# Altium schematic symbol library IC_logic.SchLib: 30 symbols
Pins are listed as number, name and electrical type; pins without a type are passive.

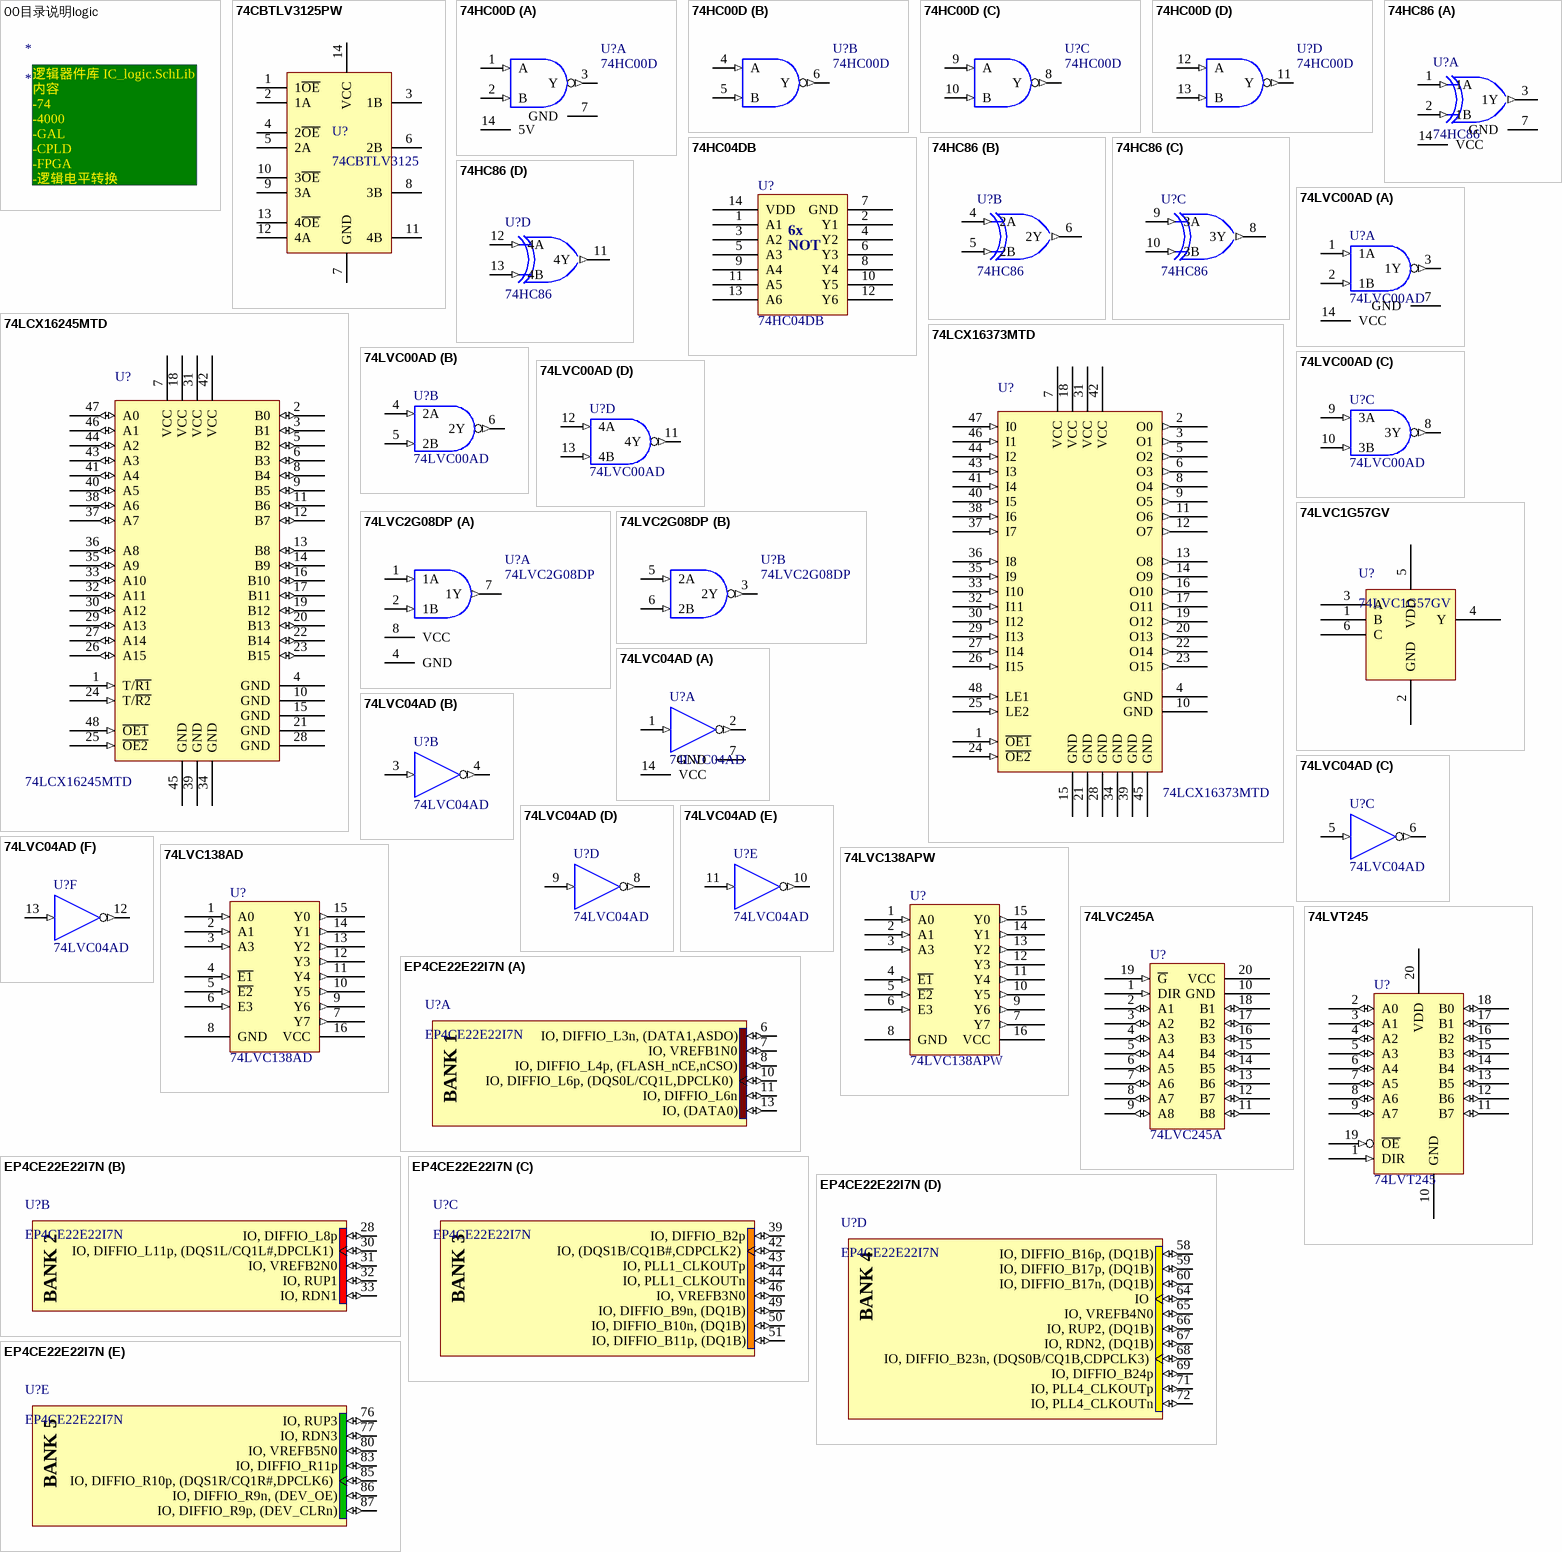
[diagram p0: symbols 00目录说明logic to EP4CE22E22I7N]

## 00目录说明logic
designator *
text: 逻辑器件库 IC_logic.SchLib / 内容 / -74 / -4000 / -GAL / -CPLD / -FPGA / -逻辑电平转换 /

## 74CBTLV3125PW
designator U?, comment 74CBTLV3125
4-bit bus switch; Manufacturer: NXP; Name: 四通道芯片; Ordering NO.: 74CBTLV3125PW
footprint TSSOP14/0.65_5.0*4.4 (TSSOP, 14-Leads, Body 5.1x4.5mm (max), Pitch 0.65mm, IPC Medium Density)
pins: 1 1~{OE}, 2 1A, 3 1B, 4 2~{OE}, 5 2A, 6 2B, 7 GND, 8 3B, 9 3A, 10 3~{OE}, 11 4B, 12 4A, 13 4~{OE}, 14 VCC

## 74HC00D
designator U?
4路2输入与非门; Manufacturer: NXP; Name: 与非门; Ordering NO.: 74HC00D
footprint SO14/1.27_8.65*3.9 (SOIC, 14-Leads, Body 8.65x3.9mm, Pitch 1.27mm, IPC Medium Density)
part A pins: 1 A (in), 2 B (in), 3 Y (out), 7 GND (power), 14 5V (power)
part B pins: 4 A (in), 5 B (in), 6 Y (out)
part C pins: 8 Y (out), 9 A (in), 10 B (in)
part D pins: 11 Y (out), 12 A (in), 13 B (in)

## 74HC04DB
designator U?
Hex inverter, 6 Channel, 5V(2V-6V); Manufacturer: NXP; Name: 反相器; Ordering NO.: 74HC04DB
footprint SSOP14/0.65_6.2*5.3 (Footprint not found)
pins: 1 A1, 2 Y1, 3 A2, 4 Y2, 5 A3, 6 Y3, 7 GND, 8 Y4, 9 A4, 10 Y5, 11 A5, 12 Y6, 13 A6, 14 VDD
text: 6x; NOT

## 74HC86
designator U?
Quad Exclusive-OR Gate; Manufacturer: NXP; Name: 异或门; Ordering NO.: 74HC86
simulation model 74HC86 (SIMCODE)
footprint SO14/1.27_8.65*3.9 (SOIC, 14-Leads, Body 8.65x3.9mm, Pitch 1.27mm, IPC Medium Density)
part A pins: 1 1A (in), 2 1B (in), 3 1Y (out), 7 GND (power), 14 VCC (power)
part B pins: 4 2A (in), 5 2B (in), 6 2Y (out)
part C pins: 8 3Y (out), 9 3A (in), 10 3B (in)
part D pins: 11 4Y (out), 12 4A (in), 13 4B (in)
1 alternate drawing of the same symbol

## 74LCX16245MTD
designator U?
Low Voltage 16-Bit Bidirectional Transceiver with 5V Tolerant Inputs and Outputs; Manufacturer: FAIRCHILD; Name: 缓冲器; Ordering NO.: 74LCX16245MTD
footprint TSSOP48/0.5_12.5*6.1 (Footprint not found)
pins: 1 T/~{R1} (in), 2 B0 (io), 3 B1 (io), 4 GND (power), 5 B2 (io), 6 B3 (io), 7 VCC (power), 8 B4 (io), 9 B5 (io), 10 GND (power), 11 B6 (io), 12 B7 (io), 13 B8 (io), 14 B9 (io), 15 GND (power), 16 B10 (io), 17 B11 (io), 18 VCC (power), 19 B12 (io), 20 B13 (io), 21 GND (power), 22 B14 (io), 23 B15 (io), 24 T/~{R2} (in), 25 ~{OE2} (in), 26 A15 (io), 27 A14 (io), 28 GND (power), 29 A13 (io), 30 A12 (io), 31 VCC (power), 32 A11 (io), 33 A10 (io), 34 GND (power), 35 A9 (io), 36 A8 (io), 37 A7 (io), 38 A6 (io), 39 GND (power), 40 A5 (io), 41 A4 (io), 42 VCC (power), 43 A3 (io), 44 A2 (io), 45 GND (power), 46 A1 (io), 47 A0 (io), 48 ~{OE1} (in)

## 74LCX16373MTD
designator U?
Low Voltage 16-Bit Transparent Latch with 5V Tolerant Inputs and Outputs; Manufacturer: NXP; Name: 缓冲器; Ordering NO.: 74LCX16373MTD
footprint TSSOP48/0.5_12.5*6.1 (TSSOP, 48-Leads, Body 12.5x6.1mm , Pitch 0.5mm,)
pins: 1 ~{OE1} (in), 2 O0 (out), 3 O1 (out), 4 GND (power), 5 O2 (out), 6 O3 (out), 7 VCC (power), 8 O4 (out), 9 O5 (out), 10 GND (power), 11 O6 (out), 12 O7 (out), 13 O8 (out), 14 O9 (out), 15 GND (power), 16 O10 (out), 17 O11 (out), 18 VCC (power), 19 O12 (out), 20 O13 (out), 21 GND (power), 22 O14 (out), 23 O15 (out), 24 ~{OE2} (in), 25 LE2 (in), 26 I15 (in), 27 I14 (in), 28 GND (power), 29 I13 (in), 30 I12 (in), 31 VCC (power), 32 I11 (in), 33 I10 (in), 34 GND (power), 35 I9 (in), 36 I8 (in), 37 I7 (in), 38 I6 (in), 39 GND (power), 40 I5 (in), 41 I4 (in), 42 VCC (power), 43 I3 (in), 44 I2 (in), 45 GND (power), 46 I1 (in), 47 I0 (in), 48 LE1 (in)

## 74LVC00AD
designator U?
Quad 2-Input Positive-NAND Gate; Manufacturer: NXP; Name: 与非门; Ordering NO.: 74LVC00AD
simulation model 74LVC00 (SIMCODE)
footprint SO14/1.27_8.65*3.9 (SOIC, 14-Leads, Body 8.65x3.9mm, Pitch 1.27mm, IPC Medium Density)
part A pins: 1 1A (in), 2 1B (in), 3 1Y (out), 7 GND (power), 14 VCC (power)
part B pins: 4 2A (in), 5 2B (in), 6 2Y (out)
part C pins: 8 3Y (out), 9 3A (in), 10 3B (in)
part D pins: 11 4Y (out), 12 4A (in), 13 4B (in)
1 alternate drawing of the same symbol

## 74LVC1G57GV
designator U?
单门SOT23-6封装; Manufacturer: NXP; 物料型号说明: 74单门SOT-23; Name: 74单门; Ordering NO.: 74LVC1G57GV; 物料替代型号: n/a; Price: 3
footprint SOT23-6 (SOT-23/SC-74A; 5 Leads; Body 3.1 x 3 mm, inc. leads (LxW max))
pins: 1 B, 2 GND, 3 A, 4 Y, 5 VDD, 6 C

## 74LVC2G08DP
designator U?
2路2输入与门; Manufacturer: PHILIPS; Name: 与门; Ordering NO.: 74LVC2G08DP
footprint TSSOP8/0.65_3*3-A (TSSOP, 8-Leads, Body 3x3mm , Pitch 0.65mm, IPC Medium Density)
part A pins: 1 1A (in), 2 1B (in), 4 GND (power), 7 1Y (out), 8 VCC (power)
part B pins: 3 2Y (out), 5 2A (in), 6 2B (in)

## 74LVC04AD
designator U?
Hex Inverter; Manufacturer: NXP; Name: 非门; Ordering NO.: 74LVC04AD
simulation model 74LVC04 (SIMCODE)
footprint SO14/1.27_8.65*3.9 (SOIC, 14-Leads, Body 8.65x3.9mm, Pitch 1.27mm, IPC Medium Density)
part A pins: 1 A (in), 2 Y (out), 7 GND (power), 14 VCC (power)
part B pins: 3 A (in), 4 Y (out)
part C pins: 5 A (in), 6 Y (out)
part D pins: 8 Y (out), 9 A (in)
part E pins: 10 Y (out), 11 A (in)
part F pins: 12 Y (out), 13 A (in)
1 alternate drawing of the same symbol

## 74LVC138AD
designator U?
3.3V CMOS 3-Line to 8-Line Decoder/Demultiplexer with 5V Tolerant I/O; Manufacturer: NXP; Name: 3-8译码器; Ordering NO.: 74LVC138AD
footprint SO16/1.27_9.9*3.9
pins: 1 A0 (in), 2 A1 (in), 3 A3 (in), 4 ~{E1} (in), 5 ~{E2} (in), 6 E3 (in), 7 Y7 (out), 8 GND (power), 9 Y6 (out), 10 Y5 (out), 11 Y4 (out), 12 Y3 (out), 13 Y2 (out), 14 Y1 (out), 15 Y0 (out), 16 VCC (power)

## 74LVC138APW
designator U?
3.3V CMOS 3-Line to 8-Line Decoder/Demultiplexer with 5V Tolerant I/O; Manufacturer: NXP; Name: 3-8译码器; Ordering NO.: 74LVC138APW
footprint TSSOP16/0.65_5.0*4.4 (TSSOP, 16-Leads, Body 5.0x4.4mm , Pitch 0.65mm, IPC Medium Density)
pins: 1 A0 (in), 2 A1 (in), 3 A3 (in), 4 ~{E1} (in), 5 ~{E2} (in), 6 E3 (in), 7 Y7 (out), 8 GND (power), 9 Y6 (out), 10 Y5 (out), 11 Y4 (out), 12 Y3 (out), 13 Y2 (out), 14 Y1 (out), 15 Y0 (out), 16 VCC (power)

## 74LVC245A
designator U?
Low Voltage CMOS Octal Bus Transceiver (not inverted) High Performance; Manufacturer: NXP; Name: 多功能门; Ordering NO.: 74LVC245A
footprint TSSOP20/0.65_6.5*4.4 (Thin Shrink Small Outline; 20 Leads; Body Width 4.4 mm; Pitch 0.65 mm)
footprint SO20/1.27_12.8*7.5 (Footprint not found)
pins: 1 DIR (in), 2 A1 (io), 3 A2 (io), 4 A3 (io), 5 A4 (io), 6 A5 (io), 7 A6 (io), 8 A7 (io), 9 A8 (io), 10 GND (power), 11 B8 (io), 12 B7 (io), 13 B6 (io), 14 B5 (io), 15 B4 (io), 16 B3 (io), 17 B2 (io), 18 B1 (io), 19 ~{G} (in), 20 VCC (power)

## 74LVT245
designator U?
74逻辑8总线缓冲门; Manufacturer: NXP; 物料替代型号: 74LCX245; Ordering NO.: 74LVT245/SSOP20; 物料型号说明: SSOP20; Price: 1.5; Name: 74逻辑8总线缓冲门
footprint SSOP20/0.65_7.2*5.3 (SSOP,Body Wide 5.3mm,25mil间距)
pins: 1 DIR (in), 2 A0 (io), 3 A1 (io), 4 A2 (io), 5 A3 (io), 6 A4 (io), 7 A5 (io), 8 A6 (io), 9 A7 (io), 10 GND (power), 11 B7 (io), 12 B6 (io), 13 B5 (io), 14 B4 (io), 15 B3 (io), 16 B2 (io), 17 B1 (io), 18 B0 (io), 19 ~{OE} (in), 20 VDD (power)

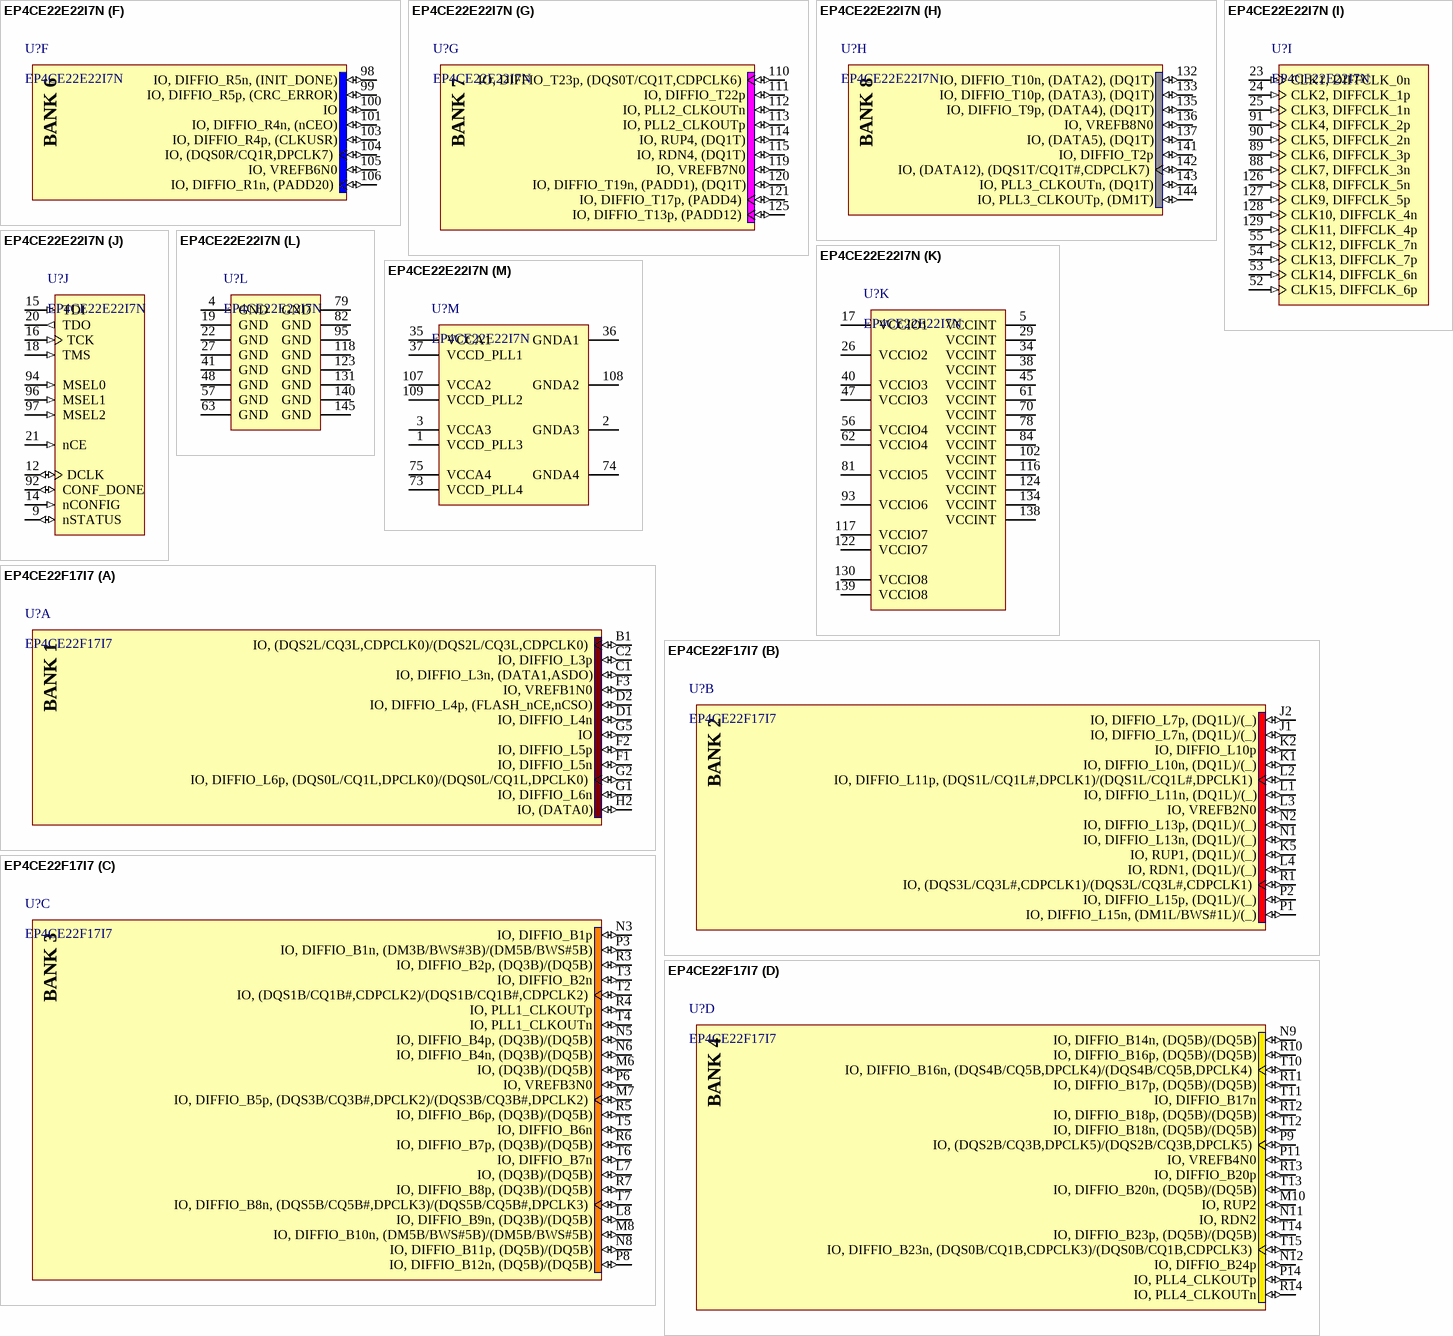
[diagram p1: symbols EP4CE22E22I7N to EP4CE22F17I7]

## EP4CE22E22I7N
designator U?
Cyclone IV Family FPGA, 1.2V Core, 79 I/O Pins, 4 PLLs, 144-Pin QFP, Speed Grade 7, Industrial Grade, Pb-Free; Manufacturer: Altera; Name: FPGA; Ordering NO.: EP4CE22E22I7N
footprint EQFP144/0.5_20*20-T (Shrink QFP, 144-Leads, Body 20x20mm, Pitch 0.5mm, Thermal Pad 6.85x6.85mm, IPC Medium Density)
part A pins: 6 IO, DIFFIO_L3n, (DATA1,ASDO) (io), 7 IO, VREFB1N0 (io), 8 IO, DIFFIO_L4p, (FLASH_nCE,nCSO) (io), 10 IO, DIFFIO_L6p, (DQS0L/CQ1L,DPCLK0) (io), 11 IO, DIFFIO_L6n (io), 13 IO, (DATA0) (io)
part B pins: 28 IO, DIFFIO_L8p (io), 30 IO, DIFFIO_L11p, (DQS1L/CQ1L#,DPCLK1) (io), 31 IO, VREFB2N0 (io), 32 IO, RUP1 (io), 33 IO, RDN1 (io)
part C pins: 39 IO, DIFFIO_B2p (io), 42 IO, (DQS1B/CQ1B#,CDPCLK2) (io), 43 IO, PLL1_CLKOUTp (io), 44 IO, PLL1_CLKOUTn (io), 46 IO, VREFB3N0 (io), 49 IO, DIFFIO_B9n, (DQ1B) (io), 50 IO, DIFFIO_B10n, (DQ1B) (io), 51 IO, DIFFIO_B11p, (DQ1B) (io)
part D pins: 58 IO, DIFFIO_B16p, (DQ1B) (io), 59 IO, DIFFIO_B17p, (DQ1B) (io), 60 IO, DIFFIO_B17n, (DQ1B) (io), 64 IO (io), 65 IO, VREFB4N0 (io), 66 IO, RUP2, (DQ1B) (io), 67 IO, RDN2, (DQ1B) (io), 68 IO, DIFFIO_B23n, (DQS0B/CQ1B,CDPCLK3) (io), 69 IO, DIFFIO_B24p (io), 71 IO, PLL4_CLKOUTp (io), 72 IO, PLL4_CLKOUTn (io)
part E pins: 76 IO, RUP3 (io), 77 IO, RDN3 (io), 80 IO, VREFB5N0 (io), 83 IO, DIFFIO_R11p (io), 85 IO, DIFFIO_R10p, (DQS1R/CQ1R#,DPCLK6) (io), 86 IO, DIFFIO_R9n, (DEV_OE) (io), 87 IO, DIFFIO_R9p, (DEV_CLRn) (io)
part F pins: 98 IO, DIFFIO_R5n, (INIT_DONE) (io), 99 IO, DIFFIO_R5p, (CRC_ERROR) (io), 100 IO (io), 101 IO, DIFFIO_R4n, (nCEO) (io), 103 IO, DIFFIO_R4p, (CLKUSR) (io), 104 IO, (DQS0R/CQ1R,DPCLK7) (io), 105 IO, VREFB6N0 (io), 106 IO, DIFFIO_R1n, (PADD20) (io)
part G pins: 110 IO, DIFFIO_T23p, (DQS0T/CQ1T,CDPCLK6) (io), 111 IO, DIFFIO_T22p (io), 112 IO, PLL2_CLKOUTn (io), 113 IO, PLL2_CLKOUTp (io), 114 IO, RUP4, (DQ1T) (io), 115 IO, RDN4, (DQ1T) (io), 119 IO, VREFB7N0 (io), 120 IO, DIFFIO_T19n, (PADD1), (DQ1T) (io), 121 IO, DIFFIO_T17p, (PADD4) (io), 125 IO, DIFFIO_T13p, (PADD12) (io)
part H pins: 132 IO, DIFFIO_T10n, (DATA2), (DQ1T) (io), 133 IO, DIFFIO_T10p, (DATA3), (DQ1T) (io), 135 IO, DIFFIO_T9p, (DATA4), (DQ1T) (io), 136 IO, VREFB8N0 (io), 137 IO, (DATA5), (DQ1T) (io), 141 IO, DIFFIO_T2p (io), 142 IO, (DATA12), (DQS1T/CQ1T#,CDPCLK7) (io), 143 IO, PLL3_CLKOUTn, (DQ1T) (io), 144 IO, PLL3_CLKOUTp, (DM1T) (io)
part I pins: 23 CLK1, DIFFCLK_0n (in), 24 CLK2, DIFFCLK_1p (in), 25 CLK3, DIFFCLK_1n (in), 52 CLK15, DIFFCLK_6p (in), 53 CLK14, DIFFCLK_6n (in), 54 CLK13, DIFFCLK_7p (in), 55 CLK12, DIFFCLK_7n (in), 88 CLK7, DIFFCLK_3n (in), 89 CLK6, DIFFCLK_3p (in), 90 CLK5, DIFFCLK_2n (in), 91 CLK4, DIFFCLK_2p (in), 126 CLK8, DIFFCLK_5n (in), 127 CLK9, DIFFCLK_5p (in), 128 CLK10, DIFFCLK_4n (in), 129 CLK11, DIFFCLK_4p (in)
part J pins: 9 nSTATUS (io), 12 DCLK (io), 14 nCONFIG (in), 15 TDI (in), 16 TCK (in), 18 TMS (in), 20 TDO (out), 21 nCE (in), 92 CONF_DONE (io), 94 MSEL0 (in), 96 MSEL1 (in), 97 MSEL2 (in)
part K pins: 5 VCCINT (power), 17 VCCIO1 (power), 26 VCCIO2 (power), 29 VCCINT (power), 34 VCCINT (power), 38 VCCINT (power), 40 VCCIO3 (power), 45 VCCINT (power), 47 VCCIO3 (power), 56 VCCIO4 (power), 61 VCCINT (power), 62 VCCIO4 (power), 70 VCCINT (power), 78 VCCINT (power), 81 VCCIO5 (power), 84 VCCINT (power), 93 VCCIO6 (power), 102 VCCINT (power), 116 VCCINT (power), 117 VCCIO7 (power), 122 VCCIO7 (power), 124 VCCINT (power), 130 VCCIO8 (power), 134 VCCINT (power), 138 VCCINT (power), 139 VCCIO8 (power)
part L pins: 4 GND (power), 19 GND (power), 22 GND (power), 27 GND (power), 41 GND (power), 48 GND (power), 57 GND (power), 63 GND (power), 79 GND (power), 82 GND (power), 95 GND (power), 118 GND (power), 123 GND (power), 131 GND (power), 140 GND (power), 145 GND (power)
part M pins: 1 VCCD_PLL3 (power), 2 GNDA3 (power), 3 VCCA3 (power), 35 VCCA1 (power), 36 GNDA1 (power), 37 VCCD_PLL1 (power), 73 VCCD_PLL4 (power), 74 GNDA4 (power), 75 VCCA4 (power), 107 VCCA2 (power), 108 GNDA2 (power), 109 VCCD_PLL2 (power)
part A text: BANK 1
part B text: BANK 2
part C text: BANK 3
part D text: BANK 4
part E text: BANK 5
part F text: BANK 6
part G text: BANK 7
part H text: BANK 8

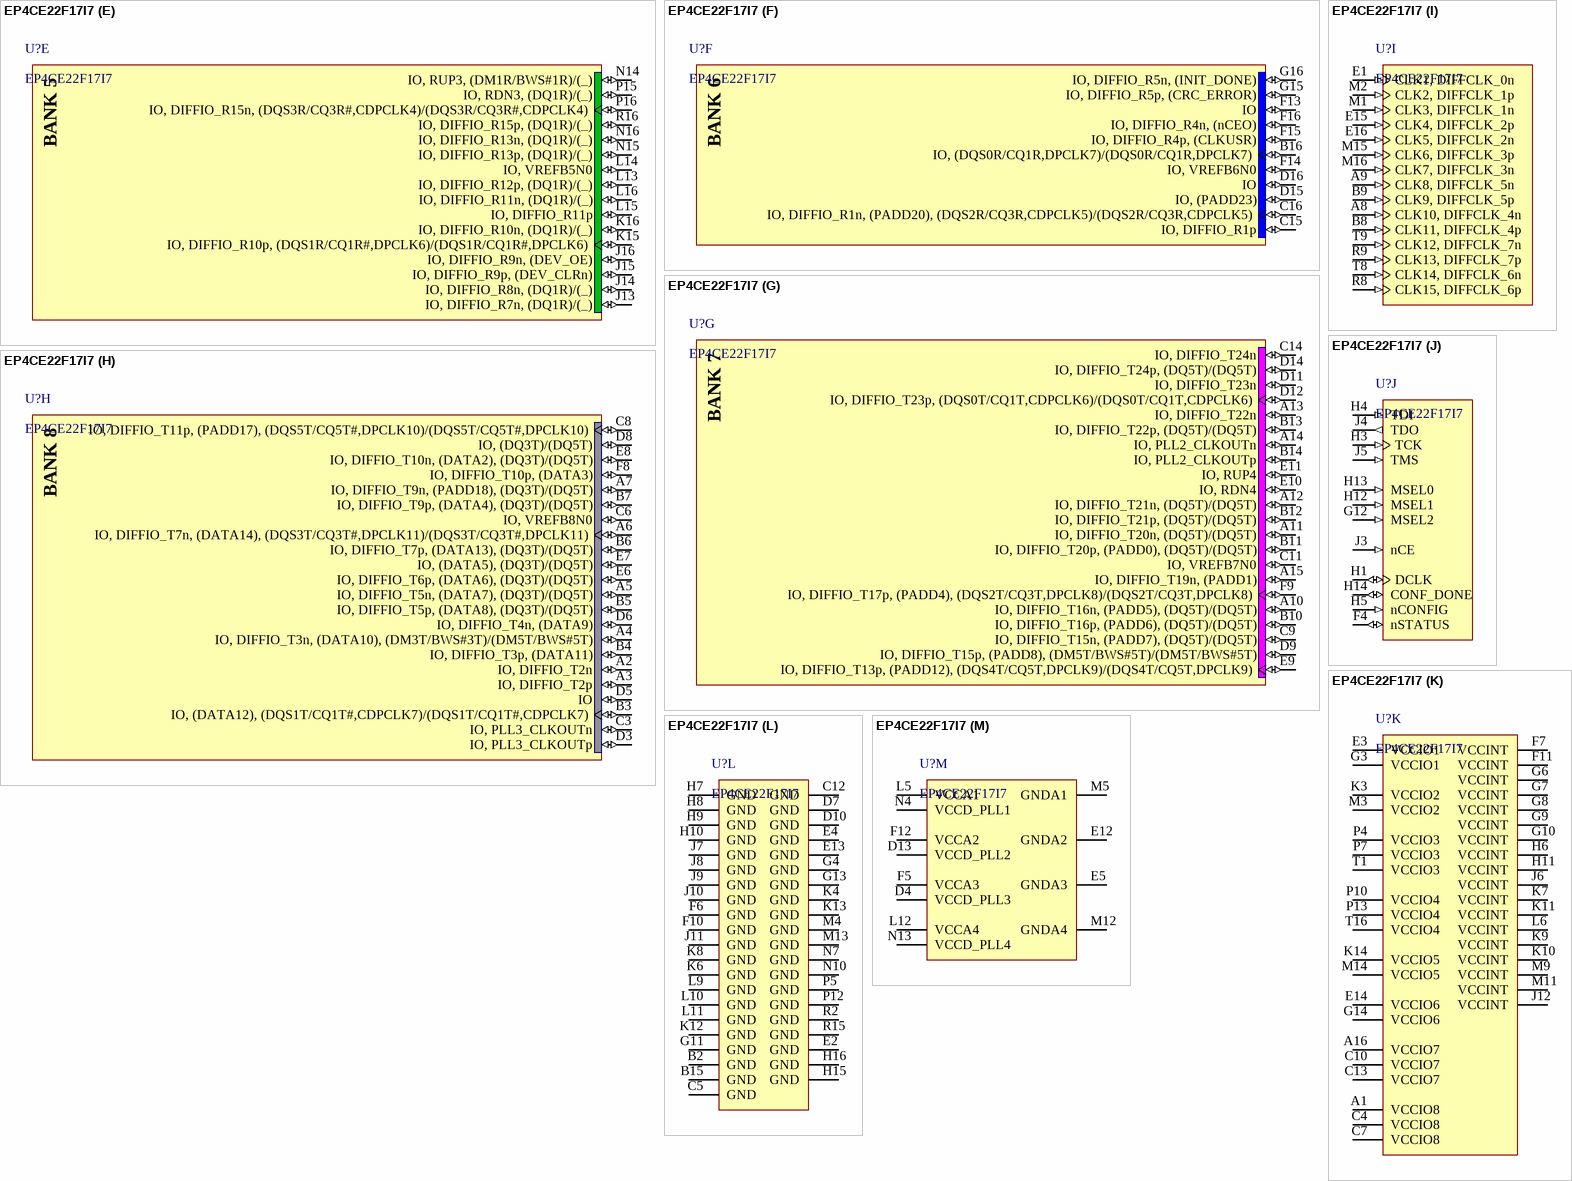
[diagram p2: symbol EP4CE22F17I7]

## EP4CE22F17I7
designator U?
Cyclone IV Family FPGA, 1.2V Core, 153 I/O Pins, 4 PLLs, 256-Pin FBGA, Speed Grade 7, Industrial Grade; Manufacturer: Altera; Name: FPGA; Ordering NO.: EP4CE22F17I7
footprint BGA256/1.0_16*16 (Footprint not found)
part A pins: B1 IO, (DQS2L/CQ3L,CDPCLK0)/(DQS2L/CQ3L,CDPCLK0) (io), C1 IO, DIFFIO_L3n, (DATA1,ASDO) (io), C2 IO, DIFFIO_L3p (io), D1 IO, DIFFIO_L4n (io), D2 IO, DIFFIO_L4p, (FLASH_nCE,nCSO) (io), F1 IO, DIFFIO_L5n (io), F2 IO, DIFFIO_L5p (io), F3 IO, VREFB1N0 (io), G1 IO, DIFFIO_L6n (io), G2 IO, DIFFIO_L6p, (DQS0L/CQ1L,DPCLK0)/(DQS0L/CQ1L,DPCLK0) (io), G5 IO (io), H2 IO, (DATA0) (io)
part B pins: J1 IO, DIFFIO_L7n, (DQ1L)/(_) (io), J2 IO, DIFFIO_L7p, (DQ1L)/(_) (io), K1 IO, DIFFIO_L10n, (DQ1L)/(_) (io), K2 IO, DIFFIO_L10p (io), K5 IO, RUP1, (DQ1L)/(_) (io), L1 IO, DIFFIO_L11n, (DQ1L)/(_) (io), L2 IO, DIFFIO_L11p, (DQS1L/CQ1L#,DPCLK1)/(DQS1L/CQ1L#,DPCLK1) (io), L3 IO, VREFB2N0 (io), L4 IO, RDN1, (DQ1L)/(_) (io), N1 IO, DIFFIO_L13n, (DQ1L)/(_) (io), N2 IO, DIFFIO_L13p, (DQ1L)/(_) (io), P1 IO, DIFFIO_L15n, (DM1L/BWS#1L)/(_) (io), P2 IO, DIFFIO_L15p, (DQ1L)/(_) (io), R1 IO, (DQS3L/CQ3L#,CDPCLK1)/(DQS3L/CQ3L#,CDPCLK1) (io)
part C pins: L7 IO, (DQ3B)/(DQ5B) (io), L8 IO, DIFFIO_B9n, (DQ3B)/(DQ5B) (io), M6 IO, (DQ3B)/(DQ5B) (io), M7 IO, DIFFIO_B5p, (DQS3B/CQ3B#,DPCLK2)/(DQS3B/CQ3B#,DPCLK2) (io), M8 IO, DIFFIO_B10n, (DM5B/BWS#5B)/(DM5B/BWS#5B) (io), N3 IO, DIFFIO_B1p (io), N5 IO, DIFFIO_B4p, (DQ3B)/(DQ5B) (io), N6 IO, DIFFIO_B4n, (DQ3B)/(DQ5B) (io), N8 IO, DIFFIO_B11p, (DQ5B)/(DQ5B) (io), P3 IO, DIFFIO_B1n, (DM3B/BWS#3B)/(DM5B/BWS#5B) (io), P6 IO, VREFB3N0 (io), P8 IO, DIFFIO_B12n, (DQ5B)/(DQ5B) (io), R3 IO, DIFFIO_B2p, (DQ3B)/(DQ5B) (io), R4 IO, PLL1_CLKOUTp (io), R5 IO, DIFFIO_B6p, (DQ3B)/(DQ5B) (io), R6 IO, DIFFIO_B7p, (DQ3B)/(DQ5B) (io), R7 IO, DIFFIO_B8p, (DQ3B)/(DQ5B) (io), T2 IO, (DQS1B/CQ1B#,CDPCLK2)/(DQS1B/CQ1B#,CDPCLK2) (io), T3 IO, DIFFIO_B2n (io), T4 IO, PLL1_CLKOUTn (io), T5 IO, DIFFIO_B6n (io), T6 IO, DIFFIO_B7n (io), T7 IO, DIFFIO_B8n, (DQS5B/CQ5B#,DPCLK3)/(DQS5B/CQ5B#,DPCLK3) (io)
part D pins: M10 IO, RUP2 (io), N9 IO, DIFFIO_B14n, (DQ5B)/(DQ5B) (io), N11 IO, RDN2 (io), N12 IO, DIFFIO_B24p (io), P9 IO, (DQS2B/CQ3B,DPCLK5)/(DQS2B/CQ3B,DPCLK5) (io), P11 IO, VREFB4N0 (io), P14 IO, PLL4_CLKOUTp (io), R10 IO, DIFFIO_B16p, (DQ5B)/(DQ5B) (io), R11 IO, DIFFIO_B17p, (DQ5B)/(DQ5B) (io), R12 IO, DIFFIO_B18p, (DQ5B)/(DQ5B) (io), R13 IO, DIFFIO_B20p (io), R14 IO, PLL4_CLKOUTn (io), T10 IO, DIFFIO_B16n, (DQS4B/CQ5B,DPCLK4)/(DQS4B/CQ5B,DPCLK4) (io), T11 IO, DIFFIO_B17n (io), T12 IO, DIFFIO_B18n, (DQ5B)/(DQ5B) (io), T13 IO, DIFFIO_B20n, (DQ5B)/(DQ5B) (io), T14 IO, DIFFIO_B23p, (DQ5B)/(DQ5B) (io), T15 IO, DIFFIO_B23n, (DQS0B/CQ1B,CDPCLK3)/(DQS0B/CQ1B,CDPCLK3) (io)
part E pins: J13 IO, DIFFIO_R7n, (DQ1R)/(_) (io), J14 IO, DIFFIO_R8n, (DQ1R)/(_) (io), J15 IO, DIFFIO_R9p, (DEV_CLRn) (io), J16 IO, DIFFIO_R9n, (DEV_OE) (io), K15 IO, DIFFIO_R10p, (DQS1R/CQ1R#,DPCLK6)/(DQS1R/CQ1R#,DPCLK6) (io), K16 IO, DIFFIO_R10n, (DQ1R)/(_) (io), L13 IO, DIFFIO_R12p, (DQ1R)/(_) (io), L14 IO, VREFB5N0 (io), L15 IO, DIFFIO_R11p (io), L16 IO, DIFFIO_R11n, (DQ1R)/(_) (io), N14 IO, RUP3, (DM1R/BWS#1R)/(_) (io), N15 IO, DIFFIO_R13p, (DQ1R)/(_) (io), N16 IO, DIFFIO_R13n, (DQ1R)/(_) (io), P15 IO, RDN3, (DQ1R)/(_) (io), P16 IO, DIFFIO_R15n, (DQS3R/CQ3R#,CDPCLK4)/(DQS3R/CQ3R#,CDPCLK4) (io), R16 IO, DIFFIO_R15p, (DQ1R)/(_) (io)
part F pins: B16 IO, (DQS0R/CQ1R,DPCLK7)/(DQS0R/CQ1R,DPCLK7) (io), C15 IO, DIFFIO_R1p (io), C16 IO, DIFFIO_R1n, (PADD20), (DQS2R/CQ3R,CDPCLK5)/(DQS2R/CQ3R,CDPCLK5) (io), D15 IO, (PADD23) (io), D16 IO (io), F13 IO (io), F14 IO, VREFB6N0 (io), F15 IO, DIFFIO_R4p, (CLKUSR) (io), F16 IO, DIFFIO_R4n, (nCEO) (io), G15 IO, DIFFIO_R5p, (CRC_ERROR) (io), G16 IO, DIFFIO_R5n, (INIT_DONE) (io)
part G pins: A10 IO, DIFFIO_T16n, (PADD5), (DQ5T)/(DQ5T) (io), A11 IO, DIFFIO_T20n, (DQ5T)/(DQ5T) (io), A12 IO, DIFFIO_T21n, (DQ5T)/(DQ5T) (io), A13 IO, DIFFIO_T22n (io), A14 IO, PLL2_CLKOUTn (io), A15 IO, DIFFIO_T19n, (PADD1) (io), B10 IO, DIFFIO_T16p, (PADD6), (DQ5T)/(DQ5T) (io), B11 IO, DIFFIO_T20p, (PADD0), (DQ5T)/(DQ5T) (io), B12 IO, DIFFIO_T21p, (DQ5T)/(DQ5T) (io), B13 IO, DIFFIO_T22p, (DQ5T)/(DQ5T) (io), B14 IO, PLL2_CLKOUTp (io), C9 IO, DIFFIO_T15n, (PADD7), (DQ5T)/(DQ5T) (io), C11 IO, VREFB7N0 (io), C14 IO, DIFFIO_T24n (io), D9 IO, DIFFIO_T15p, (PADD8), (DM5T/BWS#5T)/(DM5T/BWS#5T) (io), D11 IO, DIFFIO_T23n (io), D12 IO, DIFFIO_T23p, (DQS0T/CQ1T,CDPCLK6)/(DQS0T/CQ1T,CDPCLK6) (io), D14 IO, DIFFIO_T24p, (DQ5T)/(DQ5T) (io), E9 IO, DIFFIO_T13p, (PADD12), (DQS4T/CQ5T,DPCLK9)/(DQS4T/CQ5T,DPCLK9) (io), E10 IO, RDN4 (io), E11 IO, RUP4 (io), F9 IO, DIFFIO_T17p, (PADD4), (DQS2T/CQ3T,DPCLK8)/(DQS2T/CQ3T,DPCLK8) (io)
part H pins: A2 IO, DIFFIO_T2n (io), A3 IO, DIFFIO_T2p (io), A4 IO, DIFFIO_T3n, (DATA10), (DM3T/BWS#3T)/(DM5T/BWS#5T) (io), A5 IO, DIFFIO_T5n, (DATA7), (DQ3T)/(DQ5T) (io), A6 IO, DIFFIO_T7n, (DATA14), (DQS3T/CQ3T#,DPCLK11)/(DQS3T/CQ3T#,DPCLK11) (io), A7 IO, DIFFIO_T9n, (PADD18), (DQ3T)/(DQ5T) (io), B3 IO, (DATA12), (DQS1T/CQ1T#,CDPCLK7)/(DQS1T/CQ1T#,CDPCLK7) (io), B4 IO, DIFFIO_T3p, (DATA11) (io), B5 IO, DIFFIO_T5p, (DATA8), (DQ3T)/(DQ5T) (io), B6 IO, DIFFIO_T7p, (DATA13), (DQ3T)/(DQ5T) (io), B7 IO, DIFFIO_T9p, (DATA4), (DQ3T)/(DQ5T) (io), C3 IO, PLL3_CLKOUTn (io), C6 IO, VREFB8N0 (io), C8 IO, DIFFIO_T11p, (PADD17), (DQS5T/CQ5T#,DPCLK10)/(DQS5T/CQ5T#,DPCLK10) (io), D3 IO, PLL3_CLKOUTp (io), D5 IO (io), D6 IO, DIFFIO_T4n, (DATA9) (io), D8 IO, (DQ3T)/(DQ5T) (io), E6 IO, DIFFIO_T6p, (DATA6), (DQ3T)/(DQ5T) (io), E7 IO, (DATA5), (DQ3T)/(DQ5T) (io), E8 IO, DIFFIO_T10n, (DATA2), (DQ3T)/(DQ5T) (io), F8 IO, DIFFIO_T10p, (DATA3) (io)
part I pins: A8 CLK10, DIFFCLK_4n (in), A9 CLK8, DIFFCLK_5n (in), B8 CLK11, DIFFCLK_4p (in), B9 CLK9, DIFFCLK_5p (in), E1 CLK1, DIFFCLK_0n (in), E15 CLK4, DIFFCLK_2p (in), E16 CLK5, DIFFCLK_2n (in), M1 CLK3, DIFFCLK_1n (in), M2 CLK2, DIFFCLK_1p (in), M15 CLK6, DIFFCLK_3p (in), M16 CLK7, DIFFCLK_3n (in), R8 CLK15, DIFFCLK_6p (in), R9 CLK13, DIFFCLK_7p (in), T8 CLK14, DIFFCLK_6n (in), T9 CLK12, DIFFCLK_7n (in)
part J pins: F4 nSTATUS (io), G12 MSEL2 (in), H1 DCLK (io), H3 TCK (in), H4 TDI (in), H5 nCONFIG (in), H12 MSEL1 (in), H13 MSEL0 (in), H14 CONF_DONE (io), J3 nCE (in), J4 TDO (out), J5 TMS (in)
part K pins: A1 VCCIO8 (power), A16 VCCIO7 (power), C4 VCCIO8 (power), C7 VCCIO8 (power), C10 VCCIO7 (power), C13 VCCIO7 (power), E3 VCCIO1 (power), E14 VCCIO6 (power), F7 VCCINT (power), F11 VCCINT (power), G3 VCCIO1 (power), G6 VCCINT (power), G7 VCCINT (power), G8 VCCINT (power), G9 VCCINT (power), G10 VCCINT (power), G14 VCCIO6 (power), H6 VCCINT (power), H11 VCCINT (power), J6 VCCINT (power), J12 VCCINT (power), K3 VCCIO2 (power), K7 VCCINT (power), K9 VCCINT (power), K10 VCCINT (power), K11 VCCINT (power), K14 VCCIO5 (power), L6 VCCINT (power), M3 VCCIO2 (power), M9 VCCINT (power), M11 VCCINT (power), M14 VCCIO5 (power), P4 VCCIO3 (power), P7 VCCIO3 (power), P10 VCCIO4 (power), P13 VCCIO4 (power), T1 VCCIO3 (power), T16 VCCIO4 (power)
part L pins: B2 GND (power), B15 GND (power), C5 GND (power), C12 GND (power), D7 GND (power), D10 GND (power), E2 GND (power), E4 GND (power), E13 GND (power), F6 GND (power), F10 GND (power), G4 GND (power), G11 GND (power), G13 GND (power), H7 GND (power), H8 GND (power), H9 GND (power), H10 GND (power), H15 GND (power), H16 GND (power), J7 GND (power), J8 GND (power), J9 GND (power), J10 GND (power), J11 GND (power), K4 GND (power), K6 GND (power), K8 GND (power), K12 GND (power), K13 GND (power), L9 GND (power), L10 GND (power), L11 GND (power), M4 GND (power), M13 GND (power), N7 GND (power), N10 GND (power), P5 GND (power), P12 GND (power), R2 GND (power), R15 GND (power)
part M pins: D4 VCCD_PLL3 (power), D13 VCCD_PLL2 (power), E5 GNDA3 (power), E12 GNDA2 (power), F5 VCCA3 (power), F12 VCCA2 (power), L5 VCCA1 (power), L12 VCCA4 (power), M5 GNDA1 (power), M12 GNDA4 (power), N4 VCCD_PLL1 (power), N13 VCCD_PLL4 (power)
part A text: BANK 1
part B text: BANK 2
part C text: BANK 3
part D text: BANK 4
part E text: BANK 5
part F text: BANK 6
part G text: BANK 7
part H text: BANK 8

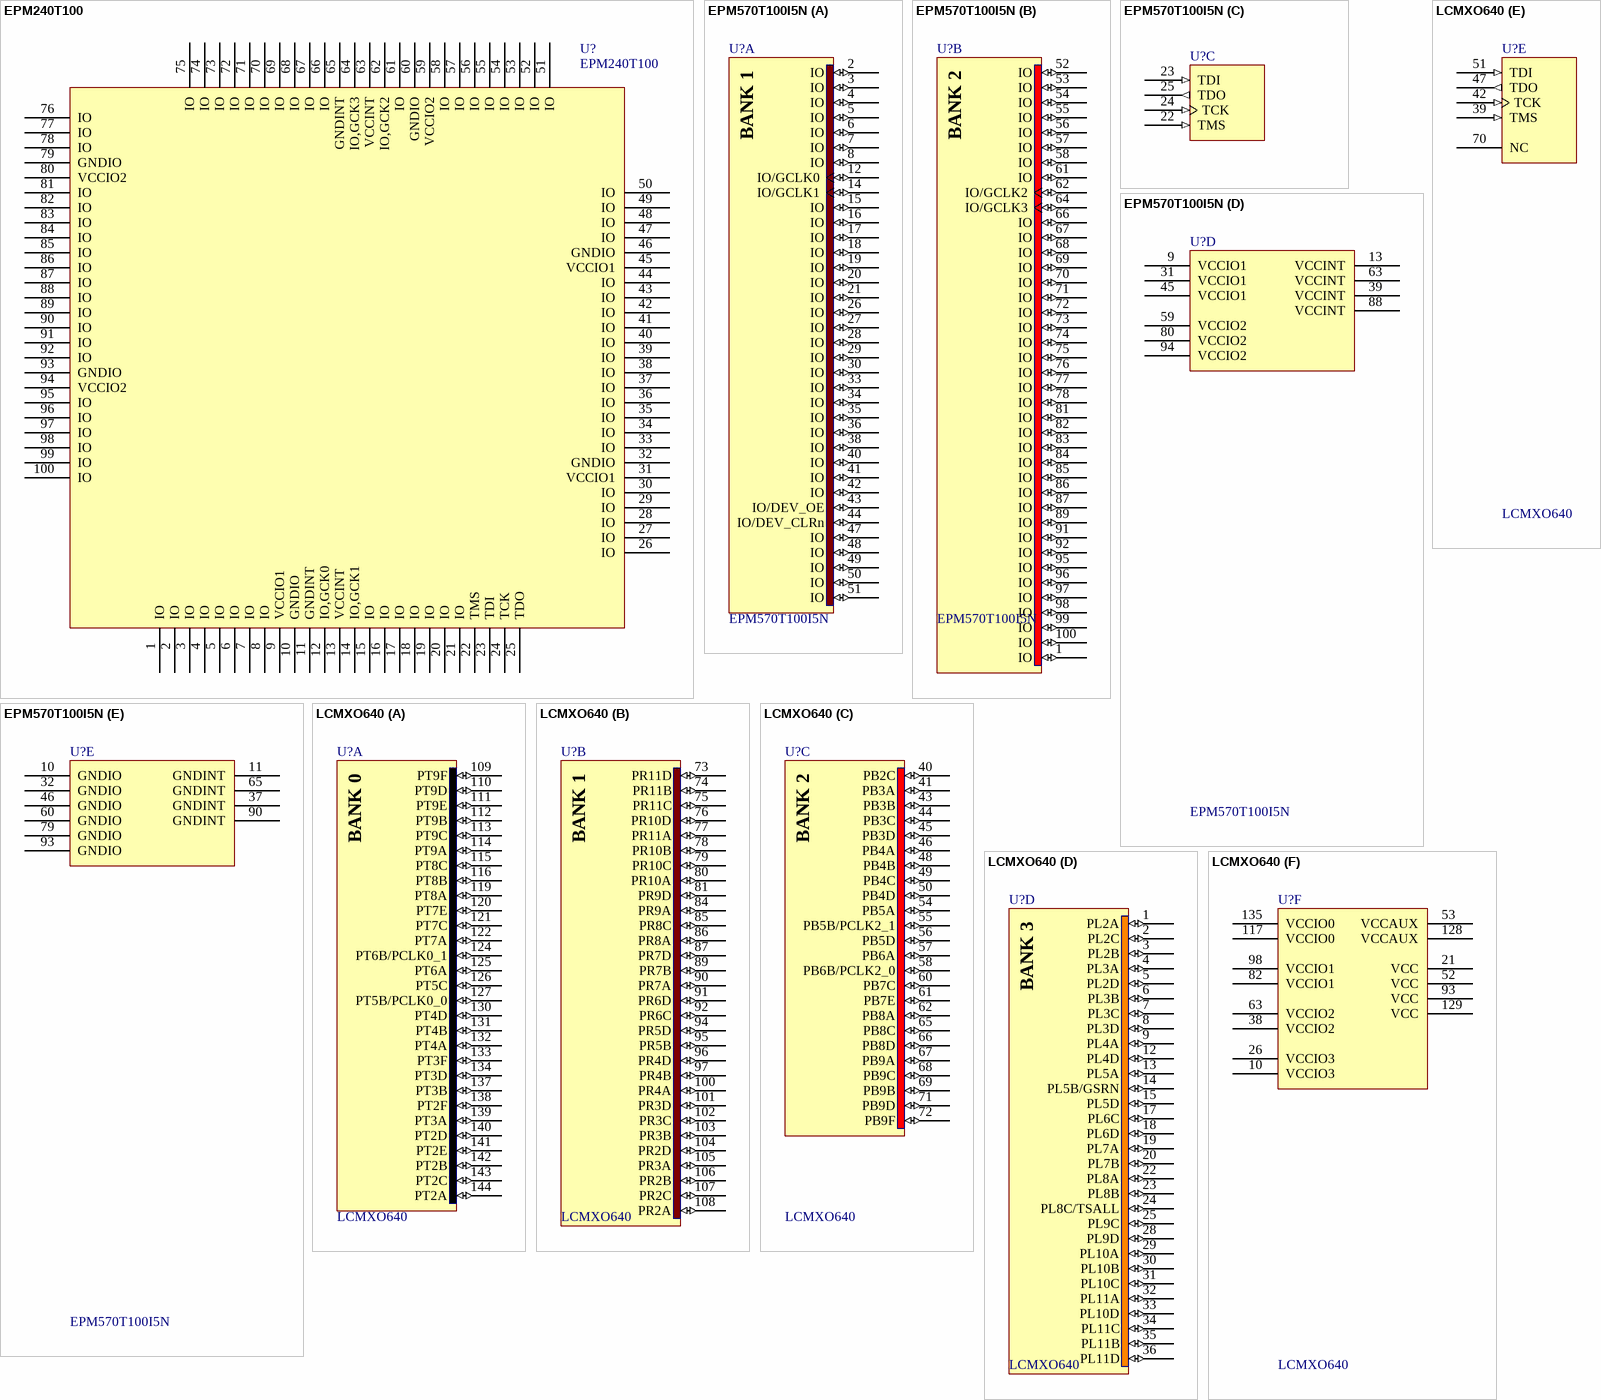
[diagram p3: symbols EPM240T100 to LCMXO640]

## EPM240T100
designator U?
CPLD; Manufacturer: Altera; 物料型号说明: TQFP100封装14x14mm 0.5mm间距; Ordering NO.: EPM240T100; 物料替代型号: n/a; Name: CPLD; Price: 15
footprint TQFP100/0.5_14*14 (Thin QFP, 100-Leads, Body 14x14mm, Pitch 0.5mm, IPC Medium Density)
pins: 1 IO, 2 IO, 3 IO, 4 IO, 5 IO, 6 IO, 7 IO, 8 IO, 9 VCCIO1, 10 GNDIO, 11 GNDINT, 12 IO,GCK0, 13 VCCINT, 14 IO,GCK1, 15 IO, 16 IO, 17 IO, 18 IO, 19 IO, 20 IO, 21 IO, 22 TMS, 23 TDI, 24 TCK, 25 TDO, 26 IO, 27 IO, 28 IO, 29 IO, 30 IO, 31 VCCIO1, 32 GNDIO, 33 IO, 34 IO, 35 IO, 36 IO, 37 IO, 38 IO, 39 IO, 40 IO, 41 IO, 42 IO, 43 IO, 44 IO, 45 VCCIO1, 46 GNDIO, 47 IO, 48 IO, 49 IO, 50 IO, 51 IO, 52 IO, 53 IO, 54 IO, 55 IO, 56 IO, 57 IO, 58 IO, 59 VCCIO2, 60 GNDIO, 61 IO, 62 IO,GCK2, 63 VCCINT, 64 IO,GCK3, 65 GNDINT, 66 IO, 67 IO, 68 IO, 69 IO, 70 IO, 71 IO, 72 IO, 73 IO, 74 IO, 75 IO, 76 IO, 77 IO, 78 IO, 79 GNDIO, 80 VCCIO2, 81 IO, 82 IO, 83 IO, 84 IO, 85 IO, 86 IO, 87 IO, 88 IO, 89 IO, 90 IO, 91 IO, 92 IO, 93 GNDIO, 94 VCCIO2, 95 IO, 96 IO, 97 IO, 98 IO, 99 IO, 100 IO

## EPM570T100I5N
designator U?
MAX II 3.3/2.5V CPLD, 76 IOs, 570 Logic Elements, 100-Pin Plastic TQFP, Commercial Temperature, Speed Grade 5, Pb-Free; Manufacturer: Altera; Name: CPLD; Ordering NO.: EPM570T100I5N
footprint TQFP100/0.5_16*16 (Footprint not found)
part A pins: 2 IO (io), 3 IO (io), 4 IO (io), 5 IO (io), 6 IO (io), 7 IO (io), 8 IO (io), 12 IO/GCLK0 (io), 14 IO/GCLK1 (io), 15 IO (io), 16 IO (io), 17 IO (io), 18 IO (io), 19 IO (io), 20 IO (io), 21 IO (io), 26 IO (io), 27 IO (io), 28 IO (io), 29 IO (io), 30 IO (io), 33 IO (io), 34 IO (io), 35 IO (io), 36 IO (io), 38 IO (io), 40 IO (io), 41 IO (io), 42 IO (io), 43 IO/DEV_OE (io), 44 IO/DEV_CLRn (io), 47 IO (io), 48 IO (io), 49 IO (io), 50 IO (io), 51 IO (io)
part B pins: 1 IO (io), 52 IO (io), 53 IO (io), 54 IO (io), 55 IO (io), 56 IO (io), 57 IO (io), 58 IO (io), 61 IO (io), 62 IO/GCLK2 (io), 64 IO/GCLK3 (io), 66 IO (io), 67 IO (io), 68 IO (io), 69 IO (io), 70 IO (io), 71 IO (io), 72 IO (io), 73 IO (io), 74 IO (io), 75 IO (io), 76 IO (io), 77 IO (io), 78 IO (io), 81 IO (io), 82 IO (io), 83 IO (io), 84 IO (io), 85 IO (io), 86 IO (io), 87 IO (io), 89 IO (io), 91 IO (io), 92 IO (io), 95 IO (io), 96 IO (io), 97 IO (io), 98 IO (io), 99 IO (io), 100 IO (io)
part C pins: 22 TMS (in), 23 TDI (in), 24 TCK (in), 25 TDO (out)
part D pins: 9 VCCIO1 (power), 13 VCCINT (power), 31 VCCIO1 (power), 39 VCCINT (power), 45 VCCIO1 (power), 59 VCCIO2 (power), 63 VCCINT (power), 80 VCCIO2 (power), 88 VCCINT (power), 94 VCCIO2 (power)
part E pins: 10 GNDIO (power), 11 GNDINT (power), 32 GNDIO (power), 37 GNDINT (power), 46 GNDIO (power), 60 GNDIO (power), 65 GNDINT (power), 79 GNDIO (power), 90 GNDINT (power), 93 GNDIO (power)
part A text: BANK 1
part B text: BANK 2

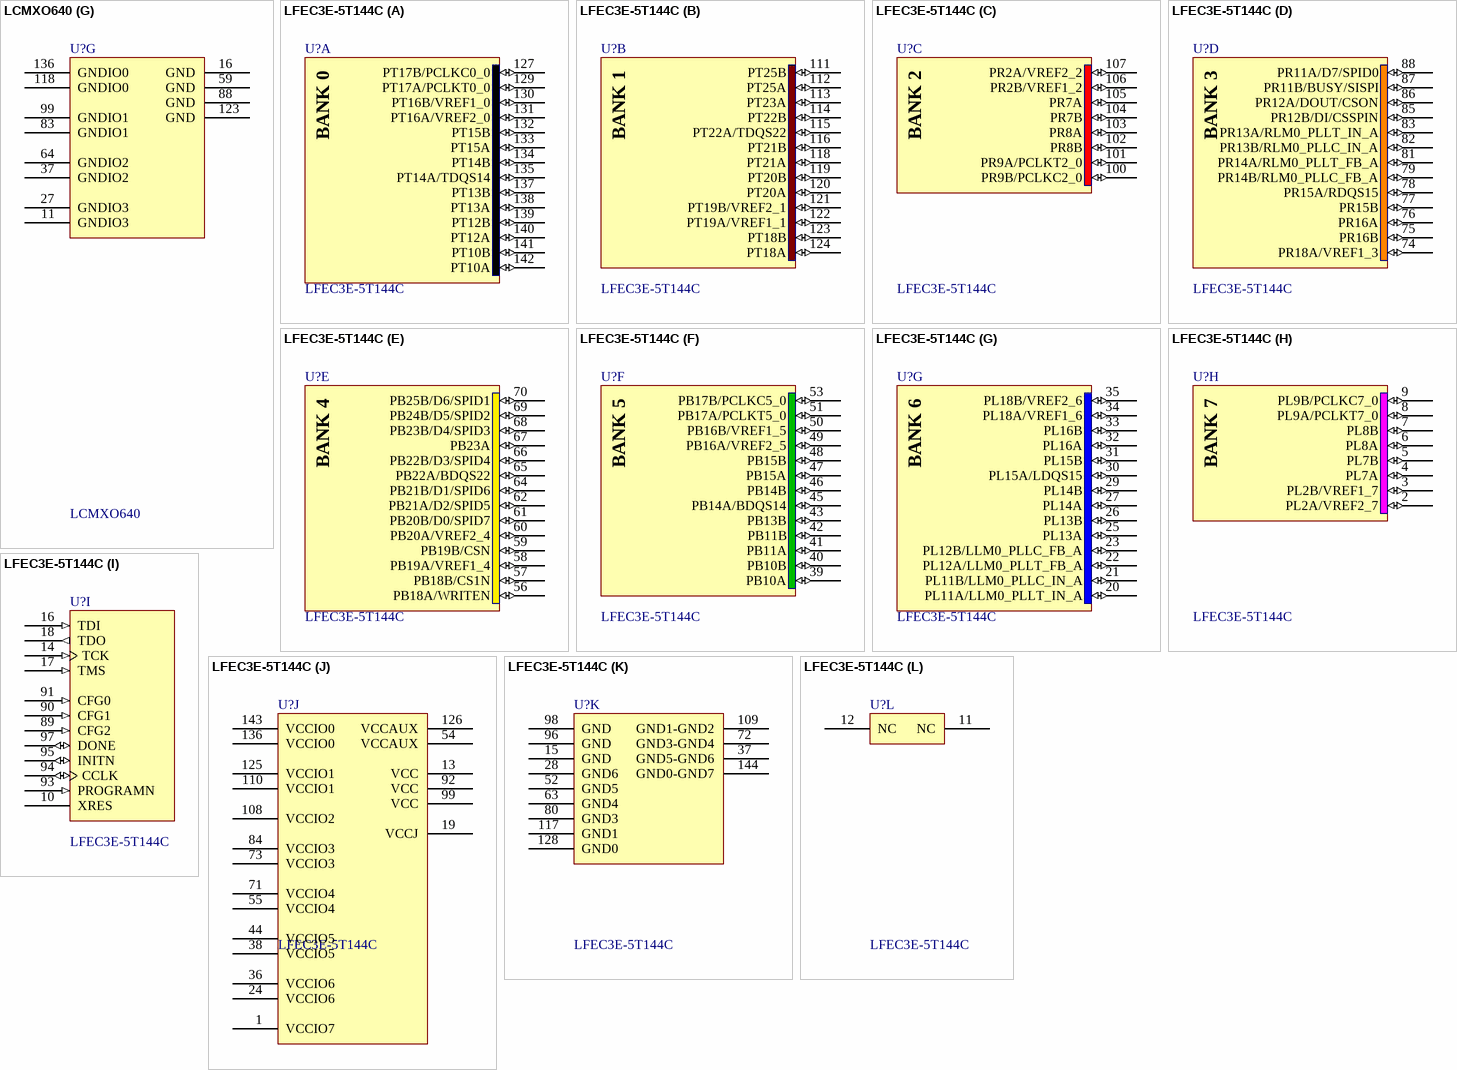
[diagram p4: symbols LCMXO640 to LFEC3E-5T144C]

## LCMXO640
designator U?
MachXO 640 Crossover PLD, 1.2V, 113 User I/Os, 144-Pins TQFP, Speed Grade-3, Commercial Grade, Pb-Free; Manufacturer: Lattice; Name: CPLD; Ordering NO.: LCMXO640
footprint TQFP144/0.5_20*20 (Thin QFP, 144-Leads, Body 20x20mm, Pitch 0.5mm, IPC Medium Density)
3D model MachXO640-TQFP144 (144-Pin Thin Quad Flat Pack (TQFP144))
signal-integrity model LCMXO640E_T144 (MachXO)
part A pins: 109 PT9F (io), 110 PT9D (io), 111 PT9E (io), 112 PT9B (io), 113 PT9C (io), 114 PT9A (io), 115 PT8C (io), 116 PT8B (io), 119 PT8A (io), 120 PT7E (io), 121 PT7C (io), 122 PT7A (io), 124 PT6B/PCLK0_1 (io), 125 PT6A (io), 126 PT5C (io), 127 PT5B/PCLK0_0 (io), 130 PT4D (io), 131 PT4B (io), 132 PT4A (io), 133 PT3F (io), 134 PT3D (io), 137 PT3B (io), 138 PT2F (io), 139 PT3A (io), 140 PT2D (io), 141 PT2E (io), 142 PT2B (io), 143 PT2C (io), 144 PT2A (io)
part B pins: 73 PR11D (io), 74 PR11B (io), 75 PR11C (io), 76 PR10D (io), 77 PR11A (io), 78 PR10B (io), 79 PR10C (io), 80 PR10A (io), 81 PR9D (io), 84 PR9A (io), 85 PR8C (io), 86 PR8A (io), 87 PR7D (io), 89 PR7B (io), 90 PR7A (io), 91 PR6D (io), 92 PR6C (io), 94 PR5D (io), 95 PR5B (io), 96 PR4D (io), 97 PR4B (io), 100 PR4A (io), 101 PR3D (io), 102 PR3C (io), 103 PR3B (io), 104 PR2D (io), 105 PR3A (io), 106 PR2B (io), 107 PR2C (io), 108 PR2A (io)
part C pins: 40 PB2C (io), 41 PB3A (io), 43 PB3B (io), 44 PB3C (io), 45 PB3D (io), 46 PB4A (io), 48 PB4B (io), 49 PB4C (io), 50 PB4D (io), 54 PB5A (io), 55 PB5B/PCLK2_1 (io), 56 PB5D (io), 57 PB6A (io), 58 PB6B/PCLK2_0 (io), 60 PB7C (io), 61 PB7E (io), 62 PB8A (io), 65 PB8C (io), 66 PB8D (io), 67 PB9A (io), 68 PB9C (io), 69 PB9B (io), 71 PB9D (io), 72 PB9F (io)
part D pins: 1 PL2A (io), 2 PL2C (io), 3 PL2B (io), 4 PL3A (io), 5 PL2D (io), 6 PL3B (io), 7 PL3C (io), 8 PL3D (io), 9 PL4A (io), 12 PL4D (io), 13 PL5A (io), 14 PL5B/GSRN (io), 15 PL5D (io), 17 PL6C (io), 18 PL6D (io), 19 PL7A (io), 20 PL7B (io), 22 PL8A (io), 23 PL8B (io), 24 PL8C/TSALL (io), 25 PL9C (io), 28 PL9D (io), 29 PL10A (io), 30 PL10B (io), 31 PL10C (io), 32 PL11A (io), 33 PL10D (io), 34 PL11C (io), 35 PL11B (io), 36 PL11D (io)
part E pins: 39 TMS (in) "Powered by VCCIO2", 42 TCK (in) "Powered by VCCIO2", 47 TDO (out) "Powered by VCCIO2", 51 TDI (in) "Powered by VCCIO2", 70 NC
part F pins: 10 VCCIO3 (power), 21 VCC (power), 26 VCCIO3 (power), 38 VCCIO2 (power), 52 VCC (power), 53 VCCAUX (power), 63 VCCIO2 (power), 82 VCCIO1 (power), 93 VCC (power), 98 VCCIO1 (power), 117 VCCIO0 (power), 128 VCCAUX (power), 129 VCC (power), 135 VCCIO0 (power)
part G pins: 11 GNDIO3 (power), 16 GND (power), 27 GNDIO3 (power), 37 GNDIO2 (power), 59 GND (power), 64 GNDIO2 (power), 83 GNDIO1 (power), 88 GND (power), 99 GNDIO1 (power), 118 GNDIO0 (power), 123 GND (power), 136 GNDIO0 (power)
part A text: BANK 0
part B text: BANK 1
part C text: BANK 2
part D text: BANK 3

## LFEC3E-5T144C
designator U?
EC 1.2V FPGA, 97 I/Os, 2 PLLs, 3.1K LUTs, 144-Pin TQFP, Speed Grade 5, Commercial Temperature Grade; Manufacturer: Lattice; Name: CPLD; Ordering NO.: LFEC3E-5T144C
3D model EC3E-TQFP-144 (144-Pin Thin Quad Flat Pack (TQFP144))
footprint TQFP144/0.5_20*20 (Thin QFP, 144-Leads, Body 20x20mm, Pitch 0.5mm, IPC Medium Density)
part A pins: 127 PT17B/PCLKC0_0 (io), 129 PT17A/PCLKT0_0 (io), 130 PT16B/VREF1_0 (io), 131 PT16A/VREF2_0 (io), 132 PT15B (io), 133 PT15A (io), 134 PT14B (io), 135 PT14A/TDQS14 (io), 137 PT13B (io), 138 PT13A (io), 139 PT12B (io), 140 PT12A (io), 141 PT10B (io), 142 PT10A (io)
part B pins: 111 PT25B (io), 112 PT25A (io), 113 PT23A (io), 114 PT22B (io), 115 PT22A/TDQS22 (io), 116 PT21B (io), 118 PT21A (io), 119 PT20B (io), 120 PT20A (io), 121 PT19B/VREF2_1 (io), 122 PT19A/VREF1_1 (io), 123 PT18B (io), 124 PT18A (io)
part C pins: 100 PR9B/PCLKC2_0 (io), 101 PR9A/PCLKT2_0 (io), 102 PR8B (io), 103 PR8A (io), 104 PR7B (io), 105 PR7A (io), 106 PR2B/VREF1_2 (io), 107 PR2A/VREF2_2 (io)
part D pins: 74 PR18A/VREF1_3 (io), 75 PR16B (io), 76 PR16A (io), 77 PR15B (io), 78 PR15A/RDQS15 (io), 79 PR14B/RLM0_PLLC_FB_A (io), 81 PR14A/RLM0_PLLT_FB_A (io), 82 PR13B/RLM0_PLLC_IN_A (io), 83 PR13A/RLM0_PLLT_IN_A (io), 85 PR12B/DI/CSSPIN (io), 86 PR12A/DOUT/CSON (io), 87 PR11B/BUSY/SISPI (io), 88 PR11A/D7/SPID0 (io)
part E pins: 56 PB18A/WRITEN (io), 57 PB18B/CS1N (io), 58 PB19A/VREF1_4 (io), 59 PB19B/CSN (io), 60 PB20A/VREF2_4 (io), 61 PB20B/D0/SPID7 (io), 62 PB21A/D2/SPID5 (io), 64 PB21B/D1/SPID6 (io), 65 PB22A/BDQS22 (io), 66 PB22B/D3/SPID4 (io), 67 PB23A (io), 68 PB23B/D4/SPID3 (io), 69 PB24B/D5/SPID2 (io), 70 PB25B/D6/SPID1 (io)
part F pins: 39 PB10A (io), 40 PB10B (io), 41 PB11A (io), 42 PB11B (io), 43 PB13B (io), 45 PB14A/BDQS14 (io), 46 PB14B (io), 47 PB15A (io), 48 PB15B (io), 49 PB16A/VREF2_5 (io), 50 PB16B/VREF1_5 (io), 51 PB17A/PCLKT5_0 (io), 53 PB17B/PCLKC5_0 (io)
part G pins: 20 PL11A/LLM0_PLLT_IN_A (io), 21 PL11B/LLM0_PLLC_IN_A (io), 22 PL12A/LLM0_PLLT_FB_A (io), 23 PL12B/LLM0_PLLC_FB_A (io), 25 PL13A (io), 26 PL13B (io), 27 PL14A (io), 29 PL14B (io), 30 PL15A/LDQS15 (io), 31 PL15B (io), 32 PL16A (io), 33 PL16B (io), 34 PL18A/VREF1_6 (io), 35 PL18B/VREF2_6 (io)
part H pins: 2 PL2A/VREF2_7 (io), 3 PL2B/VREF1_7 (io), 4 PL7A (io), 5 PL7B (io), 6 PL8A (io), 7 PL8B (io), 8 PL9A/PCLKT7_0 (io), 9 PL9B/PCLKC7_0 (io)
part I pins: 10 XRES, 14 TCK (in), 16 TDI (in), 17 TMS (in), 18 TDO (out), 89 CFG2 (in), 90 CFG1 (in), 91 CFG0 (in), 93 PROGRAMN (in), 94 CCLK (io), 95 INITN (io), 97 DONE (io)
part J pins: 1 VCCIO7 (power), 13 VCC (power), 19 VCCJ (power), 24 VCCIO6 (power), 36 VCCIO6 (power), 38 VCCIO5 (power), 44 VCCIO5 (power), 54 VCCAUX (power), 55 VCCIO4 (power), 71 VCCIO4 (power), 73 VCCIO3 (power), 84 VCCIO3 (power), 92 VCC (power), 99 VCC (power), 108 VCCIO2 (power), 110 VCCIO1 (power), 125 VCCIO1 (power), 126 VCCAUX (power), 136 VCCIO0 (power), 143 VCCIO0 (power)
part K pins: 15 GND (power), 28 GND6 (power), 37 GND5-GND6 (power), 52 GND5 (power), 63 GND4 (power), 72 GND3-GND4 (power), 80 GND3 (power), 96 GND (power), 98 GND (power), 109 GND1-GND2 (power), 117 GND1 (power), 128 GND0 (power), 144 GND0-GND7 (power)
part L pins: 11 NC, 12 NC
part A text: BANK 0
part B text: BANK 1
part C text: BANK 2
part D text: BANK 3
part E text: BANK 4
part F text: BANK 5
part G text: BANK 6
part H text: BANK 7

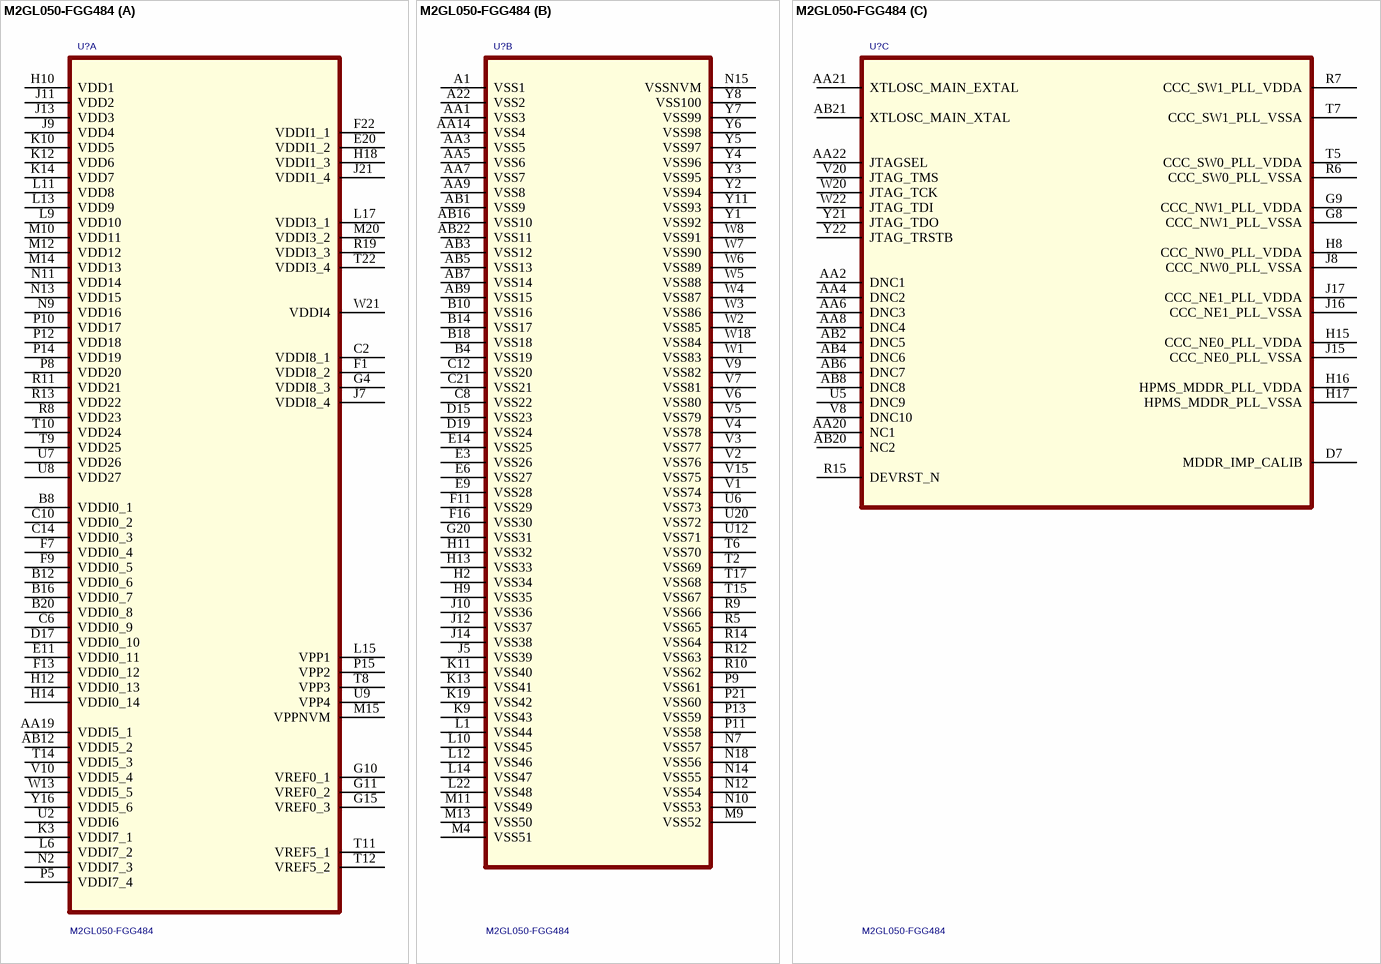
[diagram p5: symbol M2GL050-FGG484]

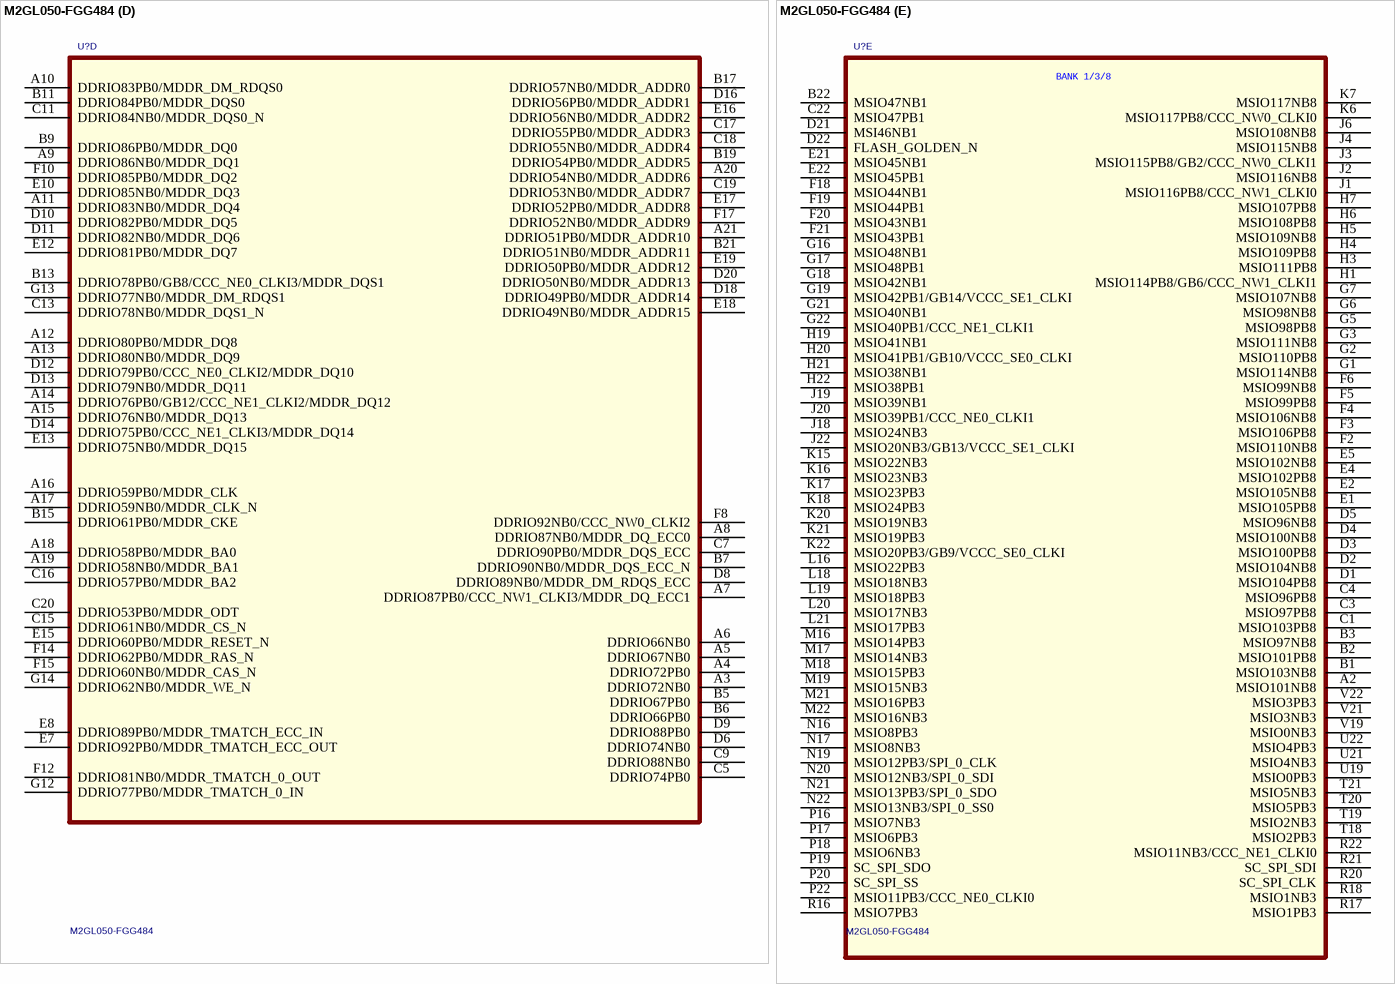
[diagram p6: symbol M2GL050-FGG484]

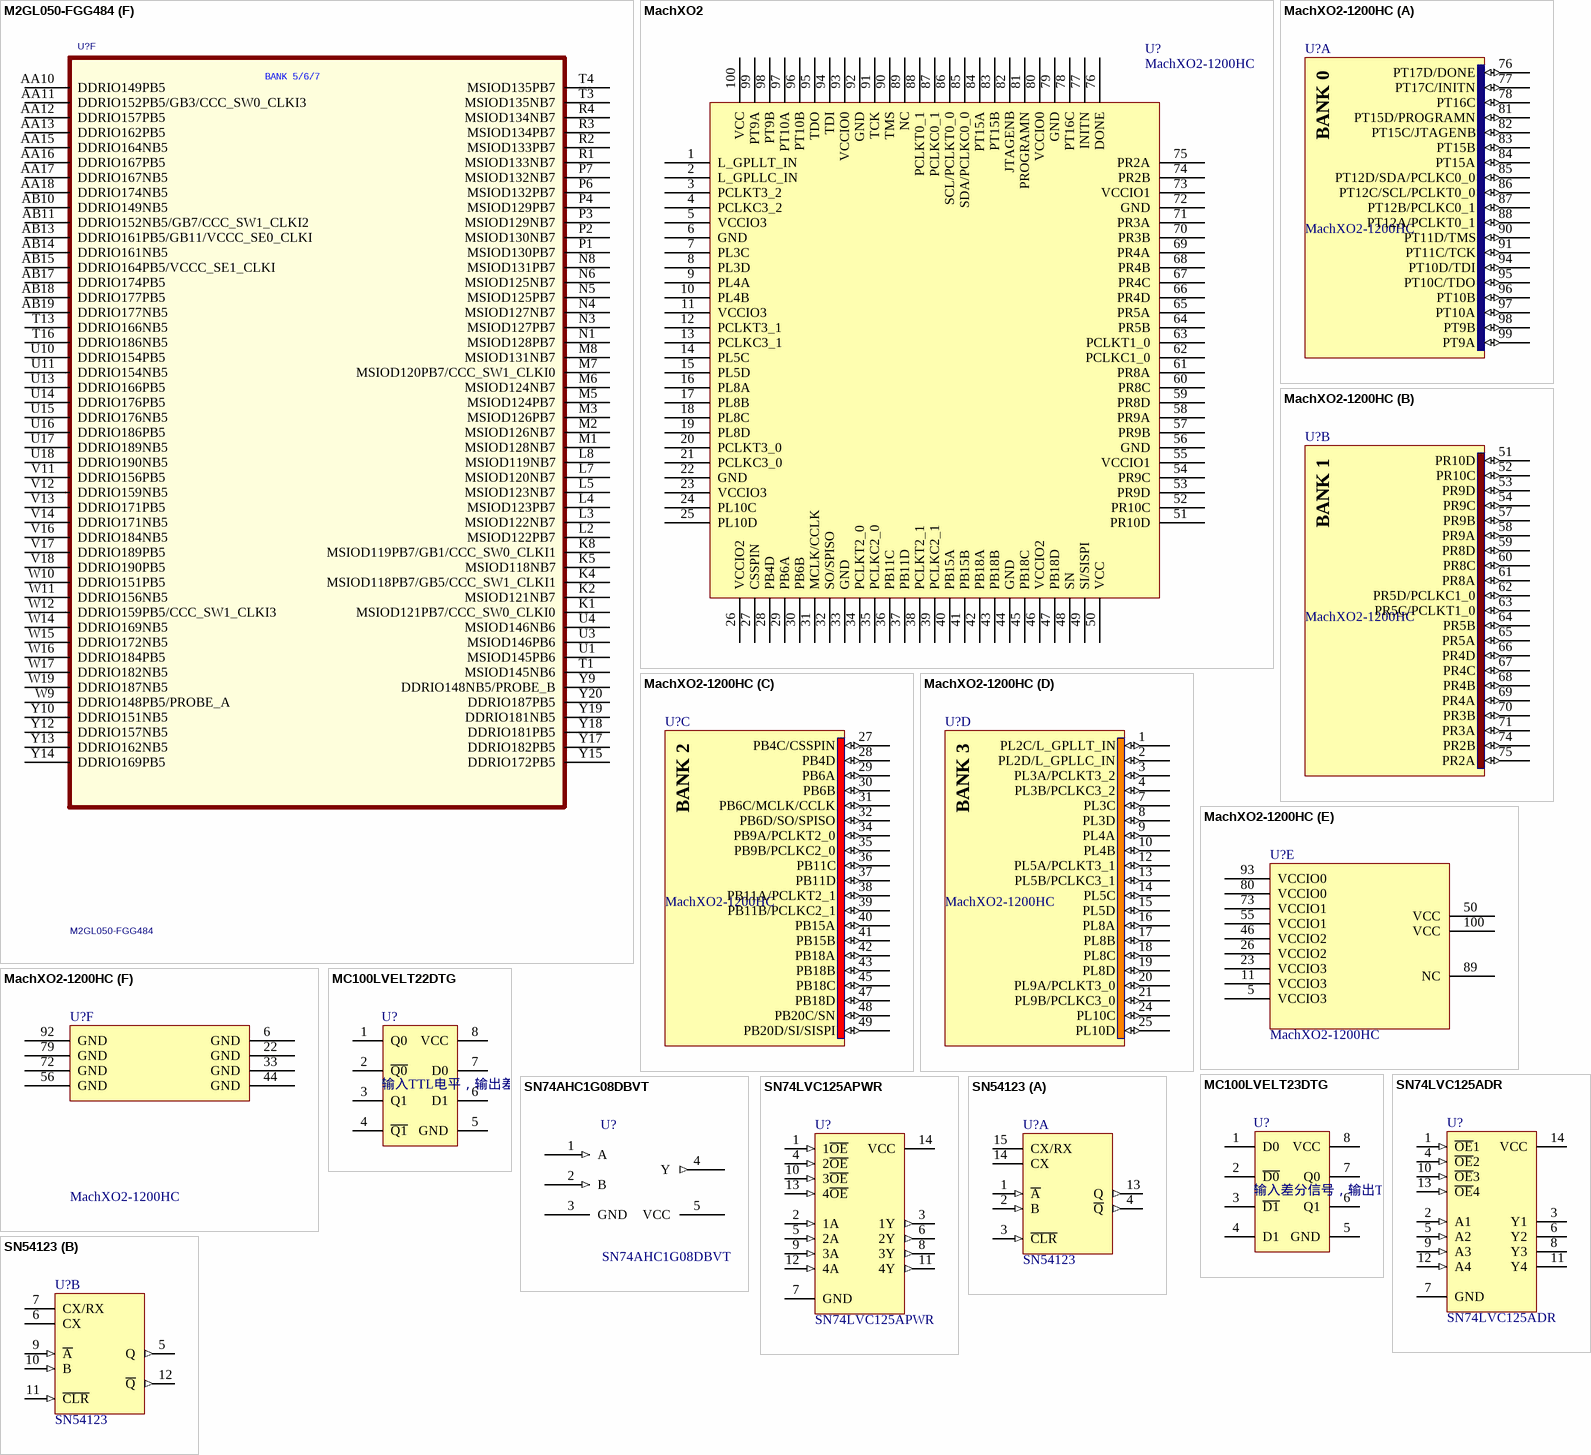
[diagram p7: symbols M2GL050-FGG484 to SN54123]

## M2GL050-FGG484
designator U?
FPGA; Manufacturer: ACTEL; Name: FPGA; Ordering NO.: M2GL050-FGG484
footprint BGA484/1.0_22*22 (BGA, 484-Leads, Body 23.0x23.0mm,  Pitch 1.00mm)
part A pins: AA19 VDDI5_1 (hiz), AB12 VDDI5_2 (hiz), B8 VDDI0_1 (hiz), B12 VDDI0_6 (hiz), B16 VDDI0_7 (hiz), B20 VDDI0_8 (hiz), C2 VDDI8_1 (hiz), C6 VDDI0_9 (hiz), C10 VDDI0_2 (hiz), C14 VDDI0_3 (hiz), D17 VDDI0_10 (hiz), E11 VDDI0_11 (hiz), E20 VDDI1_2 (hiz), F1 VDDI8_2 (hiz), F7 VDDI0_4 (hiz), F9 VDDI0_5 (hiz), F13 VDDI0_12 (hiz), F22 VDDI1_1 (hiz), G4 VDDI8_3 (hiz), G10 VREF0_1 (hiz), G11 VREF0_2 (hiz), G15 VREF0_3 (hiz), H10 VDD1 (hiz), H12 VDDI0_13 (hiz), H14 VDDI0_14 (hiz), H18 VDDI1_3 (hiz), J7 VDDI8_4 (hiz), J9 VDD4 (hiz), J11 VDD2 (hiz), J13 VDD3 (hiz), J21 VDDI1_4 (hiz), K3 VDDI7_1 (hiz), K10 VDD5 (hiz), K12 VDD6 (hiz), K14 VDD7 (hiz), L6 VDDI7_2 (hiz), L9 VDD10 (hiz), L11 VDD8 (hiz), L13 VDD9 (hiz), L15 VPP1 (hiz), L17 VDDI3_1 (hiz), M10 VDD11 (hiz), M12 VDD12 (hiz), M14 VDD13 (hiz), M15 VPPNVM (hiz), M20 VDDI3_2 (hiz), N2 VDDI7_3 (hiz), N9 VDD16 (hiz), N11 VDD14 (hiz), N13 VDD15 (hiz), P5 VDDI7_4 (hiz), P8 VDD20 (hiz), P10 VDD17 (hiz), P12 VDD18 (hiz), P14 VDD19 (hiz), P15 VPP2 (hiz), R8 VDD23 (hiz), R11 VDD21 (hiz), R13 VDD22 (hiz), R19 VDDI3_3 (hiz), T8 VPP3 (hiz), T9 VDD25 (hiz), T10 VDD24 (hiz), T11 VREF5_1 (hiz), T12 VREF5_2 (hiz), T14 VDDI5_3 (hiz), T22 VDDI3_4 (hiz), U2 VDDI6 (hiz), U7 VDD26 (hiz), U8 VDD27 (hiz), U9 VPP4 (hiz), V10 VDDI5_4 (hiz), W13 VDDI5_5 (hiz), W21 VDDI4 (hiz), Y16 VDDI5_6 (hiz)
part B pins: A1 VSS1 (hiz), A22 VSS2 (hiz), AA1 VSS3 (hiz), AA3 VSS5 (hiz), AA5 VSS6 (hiz), AA7 VSS7 (hiz), AA9 VSS8 (hiz), AA14 VSS4 (hiz), AB1 VSS9 (hiz), AB3 VSS12 (hiz), AB5 VSS13 (hiz), AB7 VSS14 (hiz), AB9 VSS15 (hiz), AB16 VSS10 (hiz), AB22 VSS11 (hiz), B4 VSS19 (hiz), B10 VSS16 (hiz), B14 VSS17 (hiz), B18 VSS18 (hiz), C8 VSS22 (hiz), C12 VSS20 (hiz), C21 VSS21 (hiz), D15 VSS23 (hiz), D19 VSS24 (hiz), E3 VSS26 (hiz), E6 VSS27 (hiz), E9 VSS28 (hiz), E14 VSS25 (hiz), F11 VSS29 (hiz), F16 VSS30 (hiz), G20 VSS31 (hiz), H2 VSS34 (hiz), H9 VSS35 (hiz), H11 VSS32 (hiz), H13 VSS33 (hiz), J5 VSS39 (hiz), J10 VSS36 (hiz), J12 VSS37 (hiz), J14 VSS38 (hiz), K9 VSS43 (hiz), K11 VSS40 (hiz), K13 VSS41 (hiz), K19 VSS42 (hiz), L1 VSS44 (hiz), L10 VSS45 (hiz), L12 VSS46 (hiz), L14 VSS47 (hiz), L22 VSS48 (hiz), M4 VSS51 (hiz), M9 VSS52 (hiz), M11 VSS49 (hiz), M13 VSS50 (hiz), N7 VSS57 (hiz), N10 VSS53 (hiz), N12 VSS54 (hiz), N14 VSS55 (hiz), N15 VSSNVM (hiz), N18 VSS56 (hiz), P9 VSS61 (hiz), P11 VSS58 (hiz), P13 VSS59 (hiz), P21 VSS60 (hiz), R5 VSS65 (hiz), R9 VSS66 (hiz), R10 VSS62 (hiz), R12 VSS63 (hiz), R14 VSS64 (hiz), T2 VSS69 (hiz), T6 VSS70 (hiz), T15 VSS67 (hiz), T17 VSS68 (hiz), U6 VSS73 (hiz), U12 VSS71 (hiz), U20 VSS72 (hiz), V1 VSS74 (hiz), V2 VSS76 (hiz), V3 VSS77 (hiz), V4 VSS78 (hiz), V5 VSS79 (hiz), V6 VSS80 (hiz), V7 VSS81 (hiz), V9 VSS82 (hiz), V15 VSS75 (hiz), W1 VSS83 (hiz), W2 VSS85 (hiz), W3 VSS86 (hiz), W4 VSS87 (hiz), W5 VSS88 (hiz), W6 VSS89 (hiz), W7 VSS90 (hiz), W8 VSS91 (hiz), W18 VSS84 (hiz), Y1 VSS92 (hiz), Y2 VSS94 (hiz), Y3 VSS95 (hiz), Y4 VSS96 (hiz), Y5 VSS97 (hiz), Y6 VSS98 (hiz), Y7 VSS99 (hiz), Y8 VSS100 (hiz), Y11 VSS93 (hiz)
part C pins: AA2 DNC1 (hiz), AA4 DNC2 (hiz), AA6 DNC3 (hiz), AA8 DNC4 (hiz), AA20 NC1 (hiz), AA21 XTLOSC_MAIN_EXTAL (hiz), AA22 JTAGSEL (hiz), AB2 DNC5 (hiz), AB4 DNC6 (hiz), AB6 DNC7 (hiz), AB8 DNC8 (hiz), AB20 NC2 (hiz), AB21 XTLOSC_MAIN_XTAL (hiz), D7 MDDR_IMP_CALIB (hiz), G8 CCC_NW1_PLL_VSSA (hiz), G9 CCC_NW1_PLL_VDDA (hiz), H8 CCC_NW0_PLL_VDDA (hiz), H15 CCC_NE0_PLL_VDDA (hiz), H16 HPMS_MDDR_PLL_VDDA (hiz), H17 HPMS_MDDR_PLL_VSSA (hiz), J8 CCC_NW0_PLL_VSSA (hiz), J15 CCC_NE0_PLL_VSSA (hiz), J16 CCC_NE1_PLL_VSSA (hiz), J17 CCC_NE1_PLL_VDDA (hiz), R6 CCC_SW0_PLL_VSSA (hiz), R7 CCC_SW1_PLL_VDDA (hiz), R15 DEVRST_N (hiz), T5 CCC_SW0_PLL_VDDA (hiz), T7 CCC_SW1_PLL_VSSA (hiz), U5 DNC9 (hiz), V8 DNC10 (hiz), V20 JTAG_TMS (hiz), W20 JTAG_TCK (hiz), W22 JTAG_TDI (hiz), Y21 JTAG_TDO (hiz), Y22 JTAG_TRSTB (hiz)
part D pins: A3 DDRIO72NB0 (hiz), A4 DDRIO72PB0 (hiz), A5 DDRIO67NB0 (hiz), A6 DDRIO66NB0 (hiz), A7 DDRIO87PB0/CCC_NW1_CLKI3/MDDR_DQ_ECC1 (hiz), A8 DDRIO87NB0/MDDR_DQ_ECC0 (hiz), A9 DDRIO86NB0/MDDR_DQ1 (hiz), A10 DDRIO83PB0/MDDR_DM_RDQS0 (hiz), A11 DDRIO83NB0/MDDR_DQ4 (hiz), A12 DDRIO80PB0/MDDR_DQ8 (hiz), A13 DDRIO80NB0/MDDR_DQ9 (hiz), A14 DDRIO76PB0/GB12/CCC_NE1_CLKI2/MDDR_DQ12 (hiz), A15 DDRIO76NB0/MDDR_DQ13 (hiz), A16 DDRIO59PB0/MDDR_CLK (hiz), A17 DDRIO59NB0/MDDR_CLK_N (hiz), A18 DDRIO58PB0/MDDR_BA0 (hiz), A19 DDRIO58NB0/MDDR_BA1 (hiz), A20 DDRIO54NB0/MDDR_ADDR6 (hiz), A21 DDRIO51PB0/MDDR_ADDR10 (hiz), B5 DDRIO67PB0 (hiz), B6 DDRIO66PB0 (hiz), B7 DDRIO90NB0/MDDR_DQS_ECC_N (hiz), B9 DDRIO86PB0/MDDR_DQ0 (hiz), B11 DDRIO84PB0/MDDR_DQS0 (hiz), B13 DDRIO78PB0/GB8/CCC_NE0_CLKI3/MDDR_DQS1 (hiz), B15 DDRIO61PB0/MDDR_CKE (hiz), B17 DDRIO57NB0/MDDR_ADDR0 (hiz), B19 DDRIO54PB0/MDDR_ADDR5 (hiz), B21 DDRIO51NB0/MDDR_ADDR11 (hiz), C5 DDRIO74PB0 (hiz), C7 DDRIO90PB0/MDDR_DQS_ECC (hiz), C9 DDRIO88NB0 (hiz), C11 DDRIO84NB0/MDDR_DQS0_N (hiz), C13 DDRIO78NB0/MDDR_DQS1_N (hiz), C15 DDRIO61NB0/MDDR_CS_N (hiz), C16 DDRIO57PB0/MDDR_BA2 (hiz), C17 DDRIO55PB0/MDDR_ADDR3 (hiz), C18 DDRIO55NB0/MDDR_ADDR4 (hiz), C19 DDRIO53NB0/MDDR_ADDR7 (hiz), C20 DDRIO53PB0/MDDR_ODT (hiz), D6 DDRIO74NB0 (hiz), D8 DDRIO89NB0/MDDR_DM_RDQS_ECC (hiz), D9 DDRIO88PB0 (hiz), D10 DDRIO82PB0/MDDR_DQ5 (hiz), D11 DDRIO82NB0/MDDR_DQ6 (hiz), D12 DDRIO79PB0/CCC_NE0_CLKI2/MDDR_DQ10 (hiz), D13 DDRIO79NB0/MDDR_DQ11 (hiz), D14 DDRIO75PB0/CCC_NE1_CLKI3/MDDR_DQ14 (hiz), D16 DDRIO56PB0/MDDR_ADDR1 (hiz), D18 DDRIO49PB0/MDDR_ADDR14 (hiz), D20 DDRIO50NB0/MDDR_ADDR13 (hiz), E7 DDRIO92PB0/MDDR_TMATCH_ECC_OUT (hiz), E8 DDRIO89PB0/MDDR_TMATCH_ECC_IN (hiz), E10 DDRIO85NB0/MDDR_DQ3 (hiz), E12 DDRIO81PB0/MDDR_DQ7 (hiz), E13 DDRIO75NB0/MDDR_DQ15 (hiz), E15 DDRIO60PB0/MDDR_RESET_N (hiz), E16 DDRIO56NB0/MDDR_ADDR2 (hiz), E17 DDRIO52PB0/MDDR_ADDR8 (hiz), E18 DDRIO49NB0/MDDR_ADDR15 (hiz), E19 DDRIO50PB0/MDDR_ADDR12 (hiz), F8 DDRIO92NB0/CCC_NW0_CLKI2 (hiz), F10 DDRIO85PB0/MDDR_DQ2 (hiz), F12 DDRIO81NB0/MDDR_TMATCH_0_OUT (hiz), F14 DDRIO62PB0/MDDR_RAS_N (hiz), F15 DDRIO60NB0/MDDR_CAS_N (hiz), F17 DDRIO52NB0/MDDR_ADDR9 (hiz), G12 DDRIO77PB0/MDDR_TMATCH_0_IN (hiz), G13 DDRIO77NB0/MDDR_DM_RDQS1 (hiz), G14 DDRIO62NB0/MDDR_WE_N (hiz)
part E pins: A2 MSIO101NB8 (hiz), B1 MSIO103NB8 (hiz), B2 MSIO101PB8 (hiz), B3 MSIO97NB8 (hiz), B22 MSIO47NB1 (hiz), C1 MSIO103PB8 (hiz), C3 MSIO97PB8 (hiz), C4 MSIO96PB8 (hiz), C22 MSIO47PB1 (hiz), D1 MSIO104PB8 (hiz), D2 MSIO104NB8 (hiz), D3 MSIO100PB8 (hiz), D4 MSIO100NB8 (hiz), D5 MSIO96NB8 (hiz), D21 MSI46NB1 (hiz), D22 FLASH_GOLDEN_N (hiz), E1 MSIO105PB8 (hiz), E2 MSIO105NB8 (hiz), E4 MSIO102PB8 (hiz), E5 MSIO102NB8 (hiz), E21 MSIO45NB1 (hiz), E22 MSIO45PB1 (hiz), F2 MSIO110NB8 (hiz), F3 MSIO106PB8 (hiz), F4 MSIO106NB8 (hiz), F5 MSIO99PB8 (hiz), F6 MSIO99NB8 (hiz), F18 MSIO44NB1 (hiz), F19 MSIO44PB1 (hiz), F20 MSIO43NB1 (hiz), F21 MSIO43PB1 (hiz), G1 MSIO114NB8 (hiz), G2 MSIO110PB8 (hiz), G3 MSIO111NB8 (hiz), G5 MSIO98PB8 (hiz), G6 MSIO98NB8 (hiz), G7 MSIO107NB8 (hiz), G16 MSIO48NB1 (hiz), G17 MSIO48PB1 (hiz), G18 MSIO42NB1 (hiz), G19 MSIO42PB1/GB14/VCCC_SE1_CLKI (hiz), G21 MSIO40NB1 (hiz), G22 MSIO40PB1/CCC_NE1_CLKI1 (hiz), H1 MSIO114PB8/GB6/CCC_NW1_CLKI1 (hiz), H3 MSIO111PB8 (hiz), H4 MSIO109PB8 (hiz), H5 MSIO109NB8 (hiz), H6 MSIO108PB8 (hiz), H7 MSIO107PB8 (hiz), H19 MSIO41NB1 (hiz), H20 MSIO41PB1/GB10/VCCC_SE0_CLKI (hiz), H21 MSIO38NB1 (hiz), H22 MSIO38PB1 (hiz), J1 MSIO116PB8/CCC_NW1_CLKI0 (hiz), J2 MSIO116NB8 (hiz), J3 MSIO115PB8/GB2/CCC_NW0_CLKI1 (hiz), J4 MSIO115NB8 (hiz), J6 MSIO108NB8 (hiz), J18 MSIO24NB3 (hiz), J19 MSIO39NB1 (hiz), J20 MSIO39PB1/CCC_NE0_CLKI1 (hiz), J22 MSIO20NB3/GB13/VCCC_SE1_CLKI (hiz), K6 MSIO117PB8/CCC_NW0_CLKI0 (hiz), K7 MSIO117NB8 (hiz), K15 MSIO22NB3 (hiz), K16 MSIO23NB3 (hiz), K17 MSIO23PB3 (hiz), K18 MSIO24PB3 (hiz), K20 MSIO19NB3 (hiz), K21 MSIO19PB3 (hiz), K22 MSIO20PB3/GB9/VCCC_SE0_CLKI (hiz), L16 MSIO22PB3 (hiz), L18 MSIO18NB3 (hiz), L19 MSIO18PB3 (hiz), L20 MSIO17NB3 (hiz), L21 MSIO17PB3 (hiz), M16 MSIO14PB3 (hiz), M17 MSIO14NB3 (hiz), M18 MSIO15PB3 (hiz), M19 MSIO15NB3 (hiz), M21 MSIO16PB3 (hiz), M22 MSIO16NB3 (hiz), N16 MSIO8PB3 (hiz), N17 MSIO8NB3 (hiz), N19 MSIO12PB3/SPI_0_CLK (hiz), N20 MSIO12NB3/SPI_0_SDI (hiz), N21 MSIO13PB3/SPI_0_SDO (hiz), N22 MSIO13NB3/SPI_0_SS0 (hiz), P16 MSIO7NB3 (hiz), P17 MSIO6PB3 (hiz), P18 MSIO6NB3 (hiz), P19 SC_SPI_SDO (hiz), P20 SC_SPI_SS (hiz), P22 MSIO11PB3/CCC_NE0_CLKI0 (hiz), R16 MSIO7PB3 (hiz), R17 MSIO1PB3 (hiz), R18 MSIO1NB3 (hiz), R20 SC_SPI_CLK (hiz), R21 SC_SPI_SDI (hiz), R22 MSIO11NB3/CCC_NE1_CLKI0 (hiz), T18 MSIO2PB3 (hiz), T19 MSIO2NB3 (hiz), T20 MSIO5PB3 (hiz), T21 MSIO5NB3 (hiz), U19 MSIO0PB3 (hiz), U21 MSIO4NB3 (hiz), U22 MSIO4PB3 (hiz), V19 MSIO0NB3 (hiz), V21 MSIO3NB3 (hiz), V22 MSIO3PB3 (hiz)
part F pins: AA10 DDRIO149PB5 (hiz), AA11 DDRIO152PB5/GB3/CCC_SW0_CLKI3 (hiz), AA12 DDRIO157PB5 (hiz), AA13 DDRIO162PB5 (hiz), AA15 DDRIO164NB5 (hiz), AA16 DDRIO167PB5 (hiz), AA17 DDRIO167NB5 (hiz), AA18 DDRIO174NB5 (hiz), AB10 DDRIO149NB5 (hiz), AB11 DDRIO152NB5/GB7/CCC_SW1_CLKI2 (hiz), AB13 DDRIO161PB5/GB11/VCCC_SE0_CLKI (hiz), AB14 DDRIO161NB5 (hiz), AB15 DDRIO164PB5/VCCC_SE1_CLKI (hiz), AB17 DDRIO174PB5 (hiz), AB18 DDRIO177PB5 (hiz), AB19 DDRIO177NB5 (hiz), K1 MSIOD121PB7/CCC_SW0_CLKI0 (hiz), K2 MSIOD121NB7 (hiz), K4 MSIOD118PB7/GB5/CCC_SW1_CLKI1 (hiz), K5 MSIOD118NB7 (hiz), K8 MSIOD119PB7/GB1/CCC_SW0_CLKI1 (hiz), L2 MSIOD122PB7 (hiz), L3 MSIOD122NB7 (hiz), L4 MSIOD123PB7 (hiz), L5 MSIOD123NB7 (hiz), L7 MSIOD120NB7 (hiz), L8 MSIOD119NB7 (hiz), M1 MSIOD128NB7 (hiz), M2 MSIOD126NB7 (hiz), M3 MSIOD126PB7 (hiz), M5 MSIOD124PB7 (hiz), M6 MSIOD124NB7 (hiz), M7 MSIOD120PB7/CCC_SW1_CLKI0 (hiz), M8 MSIOD131NB7 (hiz), N1 MSIOD128PB7 (hiz), N3 MSIOD127PB7 (hiz), N4 MSIOD127NB7 (hiz), N5 MSIOD125PB7 (hiz), N6 MSIOD125NB7 (hiz), N8 MSIOD131PB7 (hiz), P1 MSIOD130PB7 (hiz), P2 MSIOD130NB7 (hiz), P3 MSIOD129NB7 (hiz), P4 MSIOD129PB7 (hiz), P6 MSIOD132PB7 (hiz), P7 MSIOD132NB7 (hiz), R1 MSIOD133NB7 (hiz), R2 MSIOD133PB7 (hiz), R3 MSIOD134PB7 (hiz), R4 MSIOD134NB7 (hiz), T1 MSIOD145NB6 (hiz), T3 MSIOD135NB7 (hiz), T4 MSIOD135PB7 (hiz), T13 DDRIO166NB5 (hiz), T16 DDRIO186NB5 (hiz), U1 MSIOD145PB6 (hiz), U3 MSIOD146PB6 (hiz), U4 MSIOD146NB6 (hiz), U10 DDRIO154PB5 (hiz), U11 DDRIO154NB5 (hiz), U13 DDRIO166PB5 (hiz), U14 DDRIO176PB5 (hiz), U15 DDRIO176NB5 (hiz), U16 DDRIO186PB5 (hiz), U17 DDRIO189NB5 (hiz), U18 DDRIO190NB5 (hiz), V11 DDRIO156PB5 (hiz), V12 DDRIO159NB5 (hiz), V13 DDRIO171PB5 (hiz), V14 DDRIO171NB5 (hiz), V16 DDRIO184NB5 (hiz), V17 DDRIO189PB5 (hiz), V18 DDRIO190PB5 (hiz), W9 DDRIO148PB5/PROBE_A (hiz), W10 DDRIO151PB5 (hiz), W11 DDRIO156NB5 (hiz), W12 DDRIO159PB5/CCC_SW1_CLKI3 (hiz), W14 DDRIO169NB5 (hiz), W15 DDRIO172NB5 (hiz), W16 DDRIO184PB5 (hiz), W17 DDRIO182NB5 (hiz), W19 DDRIO187NB5 (hiz), Y9 DDRIO148NB5/PROBE_B (hiz), Y10 DDRIO151NB5 (hiz), Y12 DDRIO157NB5 (hiz), Y13 DDRIO162NB5 (hiz), Y14 DDRIO169PB5 (hiz), Y15 DDRIO172PB5 (hiz), Y17 DDRIO182PB5 (hiz), Y18 DDRIO181PB5 (hiz), Y19 DDRIO181NB5 (hiz), Y20 DDRIO187PB5 (hiz)
part E text: BANK 1/3/8
part F text: BANK 5/6/7

## MachXO2
designator U?, comment MachXO2-1200HC
FPGA, 1280 LUTs, 100Pin; Manufacturer: Lattice; Name: FPGA; Ordering NO.: MachXO2-1200HC
footprint TQFP-100 (Thin QFP, 100-Leads, Body 14x14mm, Pitch 0.5mm, IPC Medium Density)
pins: 1 L_GPLLT_IN, 2 L_GPLLC_IN, 3 PCLKT3_2, 4 PCLKC3_2, 5 VCCIO3, 6 GND, 7 PL3C, 8 PL3D, 9 PL4A, 10 PL4B, 11 VCCIO3, 12 PCLKT3_1, 13 PCLKC3_1, 14 PL5C, 15 PL5D, 16 PL8A, 17 PL8B, 18 PL8C, 19 PL8D, 20 PCLKT3_0, 21 PCLKC3_0, 22 GND, 23 VCCIO3, 24 PL10C, 25 PL10D, 26 VCCIO2, 27 CSSPIN, 28 PB4D, 29 PB6A, 30 PB6B, 31 MCLK/CCLK, 32 SO/SPISO, 33 GND, 34 PCLKT2_0, 35 PCLKC2_0, 36 PB11C, 37 PB11D, 38 PCLKT2_1, 39 PCLKC2_1, 40 PB15A, 41 PB15B, 42 PB18A, 43 PB18B, 44 GND, 45 PB18C, 46 VCCIO2, 47 PB18D, 48 SN, 49 SI/SISPI, 50 VCC, 51 PR10D, 52 PR10C, 53 PR9D, 54 PR9C, 55 VCCIO1, 56 GND, 57 PR9B, 58 PR9A, 59 PR8D, 60 PR8C, 61 PR8A, 62 PCLKC1_0, 63 PCLKT1_0, 64 PR5B, 65 PR5A, 66 PR4D, 67 PR4C, 68 PR4B, 69 PR4A, 70 PR3B, 71 PR3A, 72 GND, 73 VCCIO1, 74 PR2B, 75 PR2A, 76 DONE, 77 INITN, 78 PT16C, 79 GND, 80 VCCIO0, 81 PROGRAMN, 82 JTAGENB, 83 PT15B, 84 PT15A, 85 SDA/PCLKC0_0, 86 SCL/PCLKT0_0, 87 PCLKC0_1, 88 PCLKT0_1, 89 NC, 90 TMS, 91 TCK, 92 GND, 93 VCCIO0, 94 TDI, 95 TDO, 96 PT10B, 97 PT10A, 98 PT9B, 99 PT9A, 100 VCC

## MachXO2-1200HC
designator U?
MachXO 1200 Crossover PLD, 1.8V/2.5V/3.3V, 73 User I/Os, 100-Pins TQFP, Speed Grade-4, Commercial Grade; Manufacturer: Lattice; Name: CPLD; Ordering NO.: MachXO2-1200HC
footprint TQFP100/0.5_14*14 (Thin QFP, 100-Leads, Body 14x14mm, Pitch 0.5mm, IPC Medium Density)
part A pins: 76 PT17D/DONE (io), 77 PT17C/INITN (io), 78 PT16C (io), 81 PT15D/PROGRAMN (io), 82 PT15C/JTAGENB (io), 83 PT15B (io), 84 PT15A (io), 85 PT12D/SDA/PCLKC0_0 (io), 86 PT12C/SCL/PCLKT0_0 (io), 87 PT12B/PCLKC0_1 (io), 88 PT12A/PCLKT0_1 (io), 90 PT11D/TMS (io), 91 PT11C/TCK (io), 94 PT10D/TDI (io), 95 PT10C/TDO (io), 96 PT10B (io), 97 PT10A (io), 98 PT9B (io), 99 PT9A (io)
part B pins: 51 PR10D (io), 52 PR10C (io), 53 PR9D (io), 54 PR9C (io), 57 PR9B (io), 58 PR9A (io), 59 PR8D (io), 60 PR8C (io), 61 PR8A (io), 62 PR5D/PCLKC1_0 (io), 63 PR5C/PCLKT1_0 (io), 64 PR5B (io), 65 PR5A (io), 66 PR4D (io), 67 PR4C (io), 68 PR4B (io), 69 PR4A (io), 70 PR3B (io), 71 PR3A (io), 74 PR2B (io), 75 PR2A (io)
part C pins: 27 PB4C/CSSPIN (io), 28 PB4D (io), 29 PB6A (io), 30 PB6B (io), 31 PB6C/MCLK/CCLK (io), 32 PB6D/SO/SPISO (io), 34 PB9A/PCLKT2_0 (io), 35 PB9B/PCLKC2_0 (io), 36 PB11C (io), 37 PB11D (io), 38 PB11A/PCLKT2_1 (io), 39 PB11B/PCLKC2_1 (io), 40 PB15A (io), 41 PB15B (io), 42 PB18A (io), 43 PB18B (io), 45 PB18C (io), 47 PB18D (io), 48 PB20C/SN (io), 49 PB20D/SI/SISPI (io)
part D pins: 1 PL2C/L_GPLLT_IN (io), 2 PL2D/L_GPLLC_IN (io), 3 PL3A/PCLKT3_2 (io), 4 PL3B/PCLKC3_2 (io), 7 PL3C (io), 8 PL3D (io), 9 PL4A (io), 10 PL4B (io), 12 PL5A/PCLKT3_1 (io), 13 PL5B/PCLKC3_1 (io), 14 PL5C (io), 15 PL5D (io), 16 PL8A (io), 17 PL8B (io), 18 PL8C (io), 19 PL8D (io), 20 PL9A/PCLKT3_0 (io), 21 PL9B/PCLKC3_0 (io), 24 PL10C (io), 25 PL10D (io)
part E pins: 5 VCCIO3 (power), 11 VCCIO3 (power), 23 VCCIO3 (power), 26 VCCIO2 (power), 46 VCCIO2 (power), 50 VCC (power), 55 VCCIO1 (power), 73 VCCIO1 (power), 80 VCCIO0 (power), 89 NC, 93 VCCIO0 (power), 100 VCC (power)
part F pins: 6 GND (power), 22 GND (power), 33 GND (power), 44 GND (power), 56 GND (power), 72 GND (power), 79 GND (power), 92 GND (power)
part A text: BANK 0
part B text: BANK 1
part C text: BANK 2
part D text: BANK 3

## MC100LVELT22DTG
designator U?, comment 输入TTL电平，输出差分信号
Manufacturer: ON semiconductor; Name: 电平转换芯片; Ordering NO.: MC100LVELT22DTG
footprint TSSOP8/0.65_3*3 (Footprint not found)
pins: 1 Q0, 2 ~{Q0}, 3 Q1, 4 ~{Q1}, 5 GND, 6 D1, 7 D0, 8 VCC

## MC100LVELT23DTG
designator U?, comment 输入差分信号，输出TTL电平
Manufacturer: ON semiconductor; Name: 电平转换芯片; Ordering NO.: MC100LVELT23DTG
footprint TSSOP8/0.65_3*3 (Footprint not found)
pins: 1 D0, 2 ~{D0}, 3 ~{D1}, 4 D1, 5 GND, 6 Q1, 7 Q0, 8 VCC

## SN74AHC1G08DBVT
designator U?
Single 2-Input POSITIVE-AND Gate; Manufacturer: TI; Name: 逻辑门; Ordering NO.: SN74AHC1G08DBVT
footprint SOT23-5 (SOT-23/SC-74A; 5 Leads; Body 3 x 3 mm, inc. leads (LxW max))
pins: 1 A (in), 2 B (in), 3 GND (power), 4 Y (out), 5 VCC (power)

## SN74LVC125ADR
designator U?
Quadruple Bus Buffer Gate with 3-State Outputs; Manufacturer: TI; Name: 逻辑门; Ordering NO.: SN74LVC125ADR
footprint SO14/1.27_8.65*3.9 (SOIC, 14-Leads, Body 8.65x3.9mm, Pitch 1.27mm, IPC Medium Density)
3D model D014 (14-Pin Small Outline Integrated Circuit 1.27 mm Pitch)
signal-integrity model SN74LVC125AD
pins: 1 ~{OE}1 (in), 2 A1 (in), 3 Y1 (hiz), 4 ~{OE}2 (in), 5 A2 (in), 6 Y2 (hiz), 7 GND (power), 8 Y3 (hiz), 9 A3 (in), 10 ~{OE}3 (in), 11 Y4 (hiz), 12 A4 (in), 13 ~{OE}4 (in), 14 VCC (power)

## SN74LVC125APWR
designator U?
Quadruple Bus Buffer Gate with 3-State Outputs; Manufacturer: TI; Name: 逻辑门; Ordering NO.: SN74LVC125APWR
footprint TSSOP14/0.65_5.0*4.4 (TSSOP, 14-Leads, Body 5.1x4.5mm (max), Pitch 0.65mm, IPC Medium Density)
pins: 1 1~{OE} (in), 2 1A (in), 3 1Y (out), 4 2~{OE} (in), 5 2A (in), 6 2Y (out), 7 GND (power), 8 3Y (out), 9 3A (in), 10 3~{OE} (in), 11 4Y (out), 12 4A (in), 13 4~{OE} (in), 14 VCC (power)

## SN54123
designator U?
Retriggerable Monostable Multivibrator; Manufacturer: TI; Name: 逻辑门; Ordering NO.: SN54123
footprint SO16/1.27_10.9*7.2 (DFP; 16 Leads; Body 10.9 x 7.2 mm (LxW max); Pitch 1.27 mm)
3D model W016 (DFP; 16 Leads; Body 10.9 x 7.2 mm (LxW max); Pitch 1.27 mm)
signal-integrity model SN54123
pins on every part: 8 GND (power) hidden to GND, 16 VCC (power) hidden to VCC
part A pins: 1 ~{A} (in), 2 B (in), 3 ~{CLR} (in), 4 ~{Q} (out), 13 Q (out), 14 CX, 15 CX/RX
part B pins: 5 Q (out), 6 CX, 7 CX/RX, 9 ~{A} (in), 10 B (in), 11 ~{CLR} (in), 12 ~{Q} (out)